# Altium schematic symbol library Library.SchLib: 691 symbols (part 5 of 11)
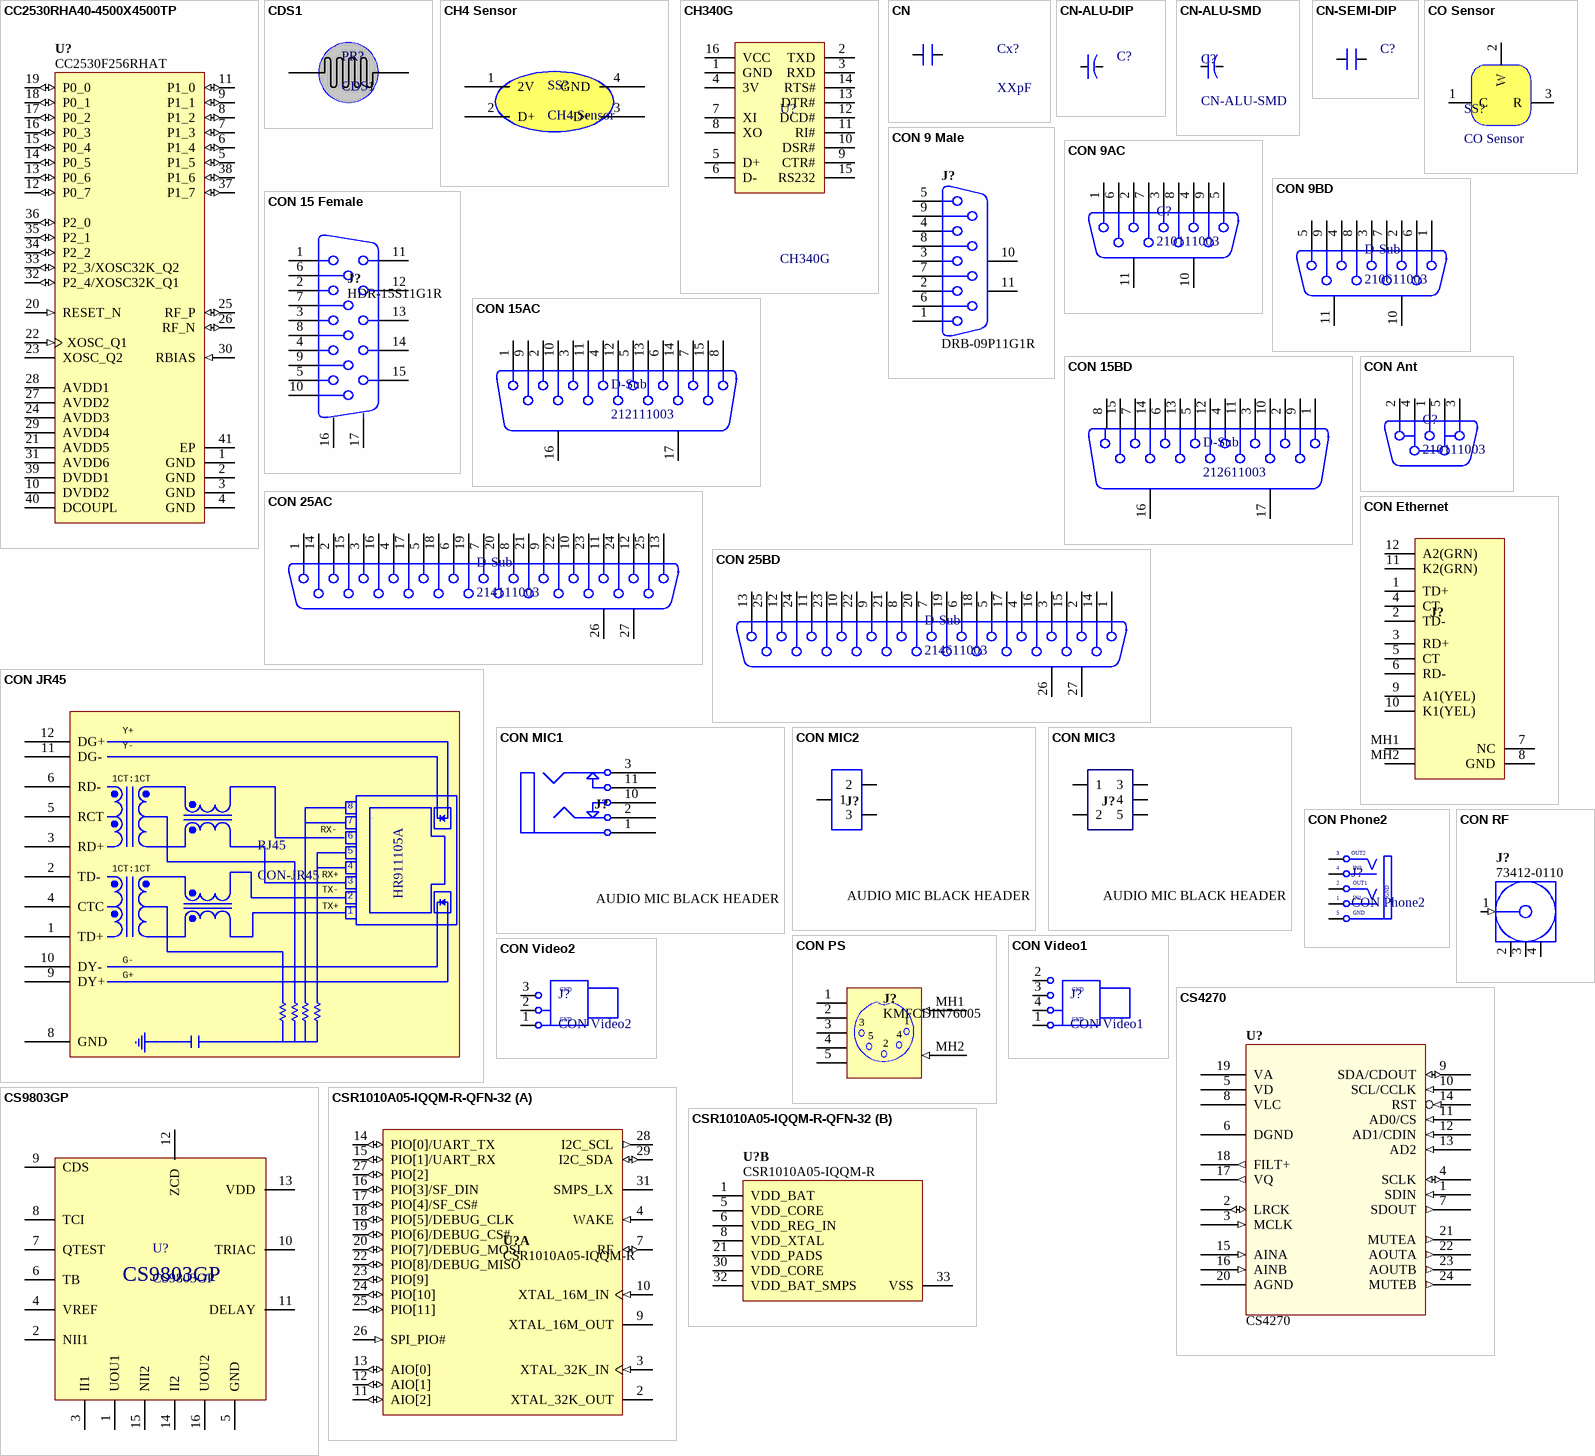
[diagram p50: symbols CC2530RHA40-4500X4500TP to CSR1010A05-IQQM-R-QFN-32]

## CON MIC2
designator J?, comment AUDIO MIC BLACK HEADER
Connector, 3.5mm Stereo Audio Socket, Black, 2 break contacts (normals) and 2 auxiliary make contacts; Connector type: AUDIO BLACK HEADER; Category: Connector; Status: Production
footprint CON MIC2
pins: 1, 2, 3

## CON MIC3
designator J?, comment AUDIO MIC BLACK HEADER
Connector, 3.5mm Stereo Audio Socket, Black, 2 break contacts (normals) and 2 auxiliary make contacts; Connector type: AUDIO BLACK HEADER; Category: Connector; Status: Production
footprint CON MIC3
pins: 1, 2, 3, 4, 5

## CON Phone2
designator J?
Jac Phone Stereo; Creat by: VanDungEvn@Gmail.com
footprint CON Phone2
pins: 1 S1 (power) "Sleeve (Ground)", 2 S1 "Tip Normal (Break Contact)", 3 TN "Tip Normal (Break Contact)", 4 S (power) "Sleeve (Ground)", 5 GND "Tip"
text: OUT2; IN2; OUT1; IN1

## CON PS
designator J?, comment KMFCDIN76005
Socket, 5-way R/A DIN; Connector type: Right Angle; Max Current: mA; Mounting Technology: Through-Hole; Status: Unreleased; Category: Connector
footprint KMFCDIN76005
pins: 1, 2, 3, 4, 5, MH1 (in), MH2 (in)

## CON RF
designator J?, comment 73412-0110
Microcoaxial RF, 50 Ohm, PCB Vertical Jack Receptacle, SMT, 1.25mm Mounted Height; Sub-class: Serial Bus; IEC-class: Connector; Body Length: 4 mm; Datasheet: http://www.molex.com/webdocs/datasheets/pdf/en-us/0734120110_RF_COAX_CONNECTORS.pdf; Terminal Pitch: 3 mm; Class: Connector
footprint CON RF (Microcoaxial RF, 50 Ohm, PCB Vertical Jack Receptacle, SMT, 1.25mm Mounted Height)
pins: 1 Signal (in) "Signal Pin", 2 GND (power), 3 GND (power), 4 GND (power)

## CON Video1
designator J?
Jac Video Stereo
footprint TRC-005 (RCA Phono Jack, Right Angle, Thru-Hole, Body 20.8 x 9.8 x 11 mm (LxWxH))
pins: 1 Black, 2 Yellow, 3 White, 4 Red
text: GND

## CON Video2
designator J?
Jac Video Stereo
footprint TRC-006
pins: 1, 2, 3
text: GND

## CS4270
designator U?
CS4270; 24-Bit, 192 kHz Stereo Audio CODEC; AudioICTypes: Amplifier; Supply Voltage: mV; Mounting Technology: Surface Mount; Status: Unreleased; Category: IC-Audio
footprint TSSOP24 (TSSOP, 24-Leads, Body 7.80x4.40mm, Pitch 0.65mm, IPC High Density)
pins: 1 SDIN (in), 2 LRCK (io), 3 MCLK (in), 4 SCLK (io), 5 VD (power), 6 DGND (power), 7 SDOUT (out), 8 VLC (power), 9 SDA/CDOUT (io), 10 SCL/CCLK (in), 11 AD0/CS (in), 12 AD1/CDIN (in), 13 AD2 (in), 14 RST (in), 15 AINA (in), 16 AINB (in), 17 VQ (out), 18 FILT+ (out), 19 VA (power), 20 AGND (power), 21 MUTEA (out), 22 AOUTA (out), 23 AOUTB (out), 24 MUTEB (out)

## CS9803GP
designator U?
Infrared Induction Control IC
footprint DIP16
pins: 1 UOU1, 2 NII1, 3 II1, 4 VREF, 5 GND (power), 6 TB (power), 7 QTEST (power), 8 TCI (power), 9 CDS (power), 10 TRIAC (power), 11 DELAY (power), 12 ZCD (power), 13 VDD (power), 14 II2 (power), 15 NII2 (power), 16 UOU2 (power)

## CSR1010A05-IQQM-R-QFN-32
designator U?, comment CSR1010A05-IQQM-R
Bluetooth Low Energy Single-mode IC, 64 KB RAM and 64 KB ROM, -30 to 85 degC, 32-pin QFN; Manufacturer: CSR; Stop bits No.: 1 or 2; I/O Supply Voltage (VDD_PADS): 1.2 to 3.6 V; Digital IO No.: 12; Packing: Tape and Reel; Flow control: CTS / RTS; Bits per byte: 8; Baud Rate (max): 2Mbaud (<=1%Error); Baud Rate (min): 1200 baud (<=2%Error); ComponentLink2Description: Datasheet; ComponentLink2URL: https://www.csrsupport.com/download/39359/CSR1010%20Data%20Sheet%20CS-231985-DS.pdf; PartNumber: CSR1010A05-IQQM-R; DatasheetVersion: Rev. 4; Memory Size: 64KB RAM and 64KB ROM; ComponentLink3URL: https://www.csrsupport.com/download/39359/CSR1010%20Data%20Sheet%20CS-231985-DS.pdf; Mounting Technology: Surface Mount; Operating Temperature: -30 to 85 degC; PackageDescription: 32-Pin Quad Flat No-lead Package, Body 5x5mm, Pitch 0.5mm; ComponentLink1URL: http://csr.com/; PackageReference: QFN-32; ComponentLink3Description: Package Specification; ComponentLink1Description: Manufacturer URL
footprint QFN32 (QFN, 32-Leads, Body 5x5 mm, Pitch 0.5mm, IPC High Density)
part A pins: 2 XTAL_32K_OUT "Drive for sleep clock crystal.", 3 XTAL_32K_IN (in) "32.768kHz sleep clock input.", 4 WAKE (in) "Input to wake CSR1010 QFN from hibernate or dormant.", 7 RF (io) "Bluetooth transmitter / receiver.", 9 XTAL_16M_OUT "Drive for crystal.", 10 XTAL_16M_IN (in) "Reference clock input.", 11 AIO[2] (io) "Analogue programmable I/O line.", 12 AIO[1] (io) "Analogue programmable I/O line.", 13 AIO[0] (io) "Analogue programmable I/O line.", 14 PIO[0]/UART_TX (io) "Programmable I/O line or UART TX.", 15 PIO[1]/UART_RX (io) "Programmable I/O line or UART RX.", 16 PIO[3]/SF_DIN (io) "Programmable I/O line or SPI serial flash data (SF_DIN) input. If connecting to SPI serial flash, this pin connects to SI on the serial flash. See Section 5.3.", 17 PIO[4]/SF_CS# (io) "Programmable I/O line or SPI serial flash chip select (SF_CS#), see Section 5.3.", 18 PIO[5]/DEBUG_CLK (io) "Programmable I/O line or debug SPI CLK selected by SPI_PIO#.", 19 PIO[6]/DEBUG_CS# (io) "Programmable I/O line or debug SPI chip select (CS#) selected by SPI_PIO#.", 20 PIO[7]/DEBUG_MOSI (io) "Programmable I/O line or debug SPI MOSI selected by SPI_PIO#.", 22 PIO[8]/DEBUG_MISO (io) "Programmable I/O line or debug SPI MISO selected by SPI_PIO#.", 23 PIO[9] (io) "Programmable I/O line.", 24 PIO[10] (io) "Programmable I/O line.", 25 PIO[11] (io) "Programmable I/O line.", 26 SPI_PIO# (in) "Selects SPI debug on PIO[8:5].", 27 PIO[2] (io) "Programmable I/O line or I2C power.", 28 I2C_SCL (out) "I2C clock or SPI serial flash clock output (SF_CLK), see Section 5.3.", 29 I2C_SDA (io) "I2C data input / output or SPI serial flash data output (SF_DOUT). If connecting to SPI serial flash, connect this pin to SO on the serial flash. See Section 5.3.", 31 SMPS_LX (power) "High-voltage switch-mode regulator output."
part B pins: 1 VDD_BAT (power) "Battery input and regulator enable (active high).", 5 VDD_CORE (power) "Positive supply for digital domain.", 6 VDD_REG_IN (power) "Positive supply for Bluetooth radio and digital linear regulator.", 8 VDD_XTAL (power) "Decouple with 470nF capacitor to ground.", 21 VDD_PADS (power) "Positive supply for all digital I/O ports PIO[11:0].", 30 VDD_CORE (power) "Positive supply for digital domain.", 32 VDD_BAT_SMPS (power) "Input to high-voltage switch-mode regulator.", 33 VSS (power) "Ground connections."

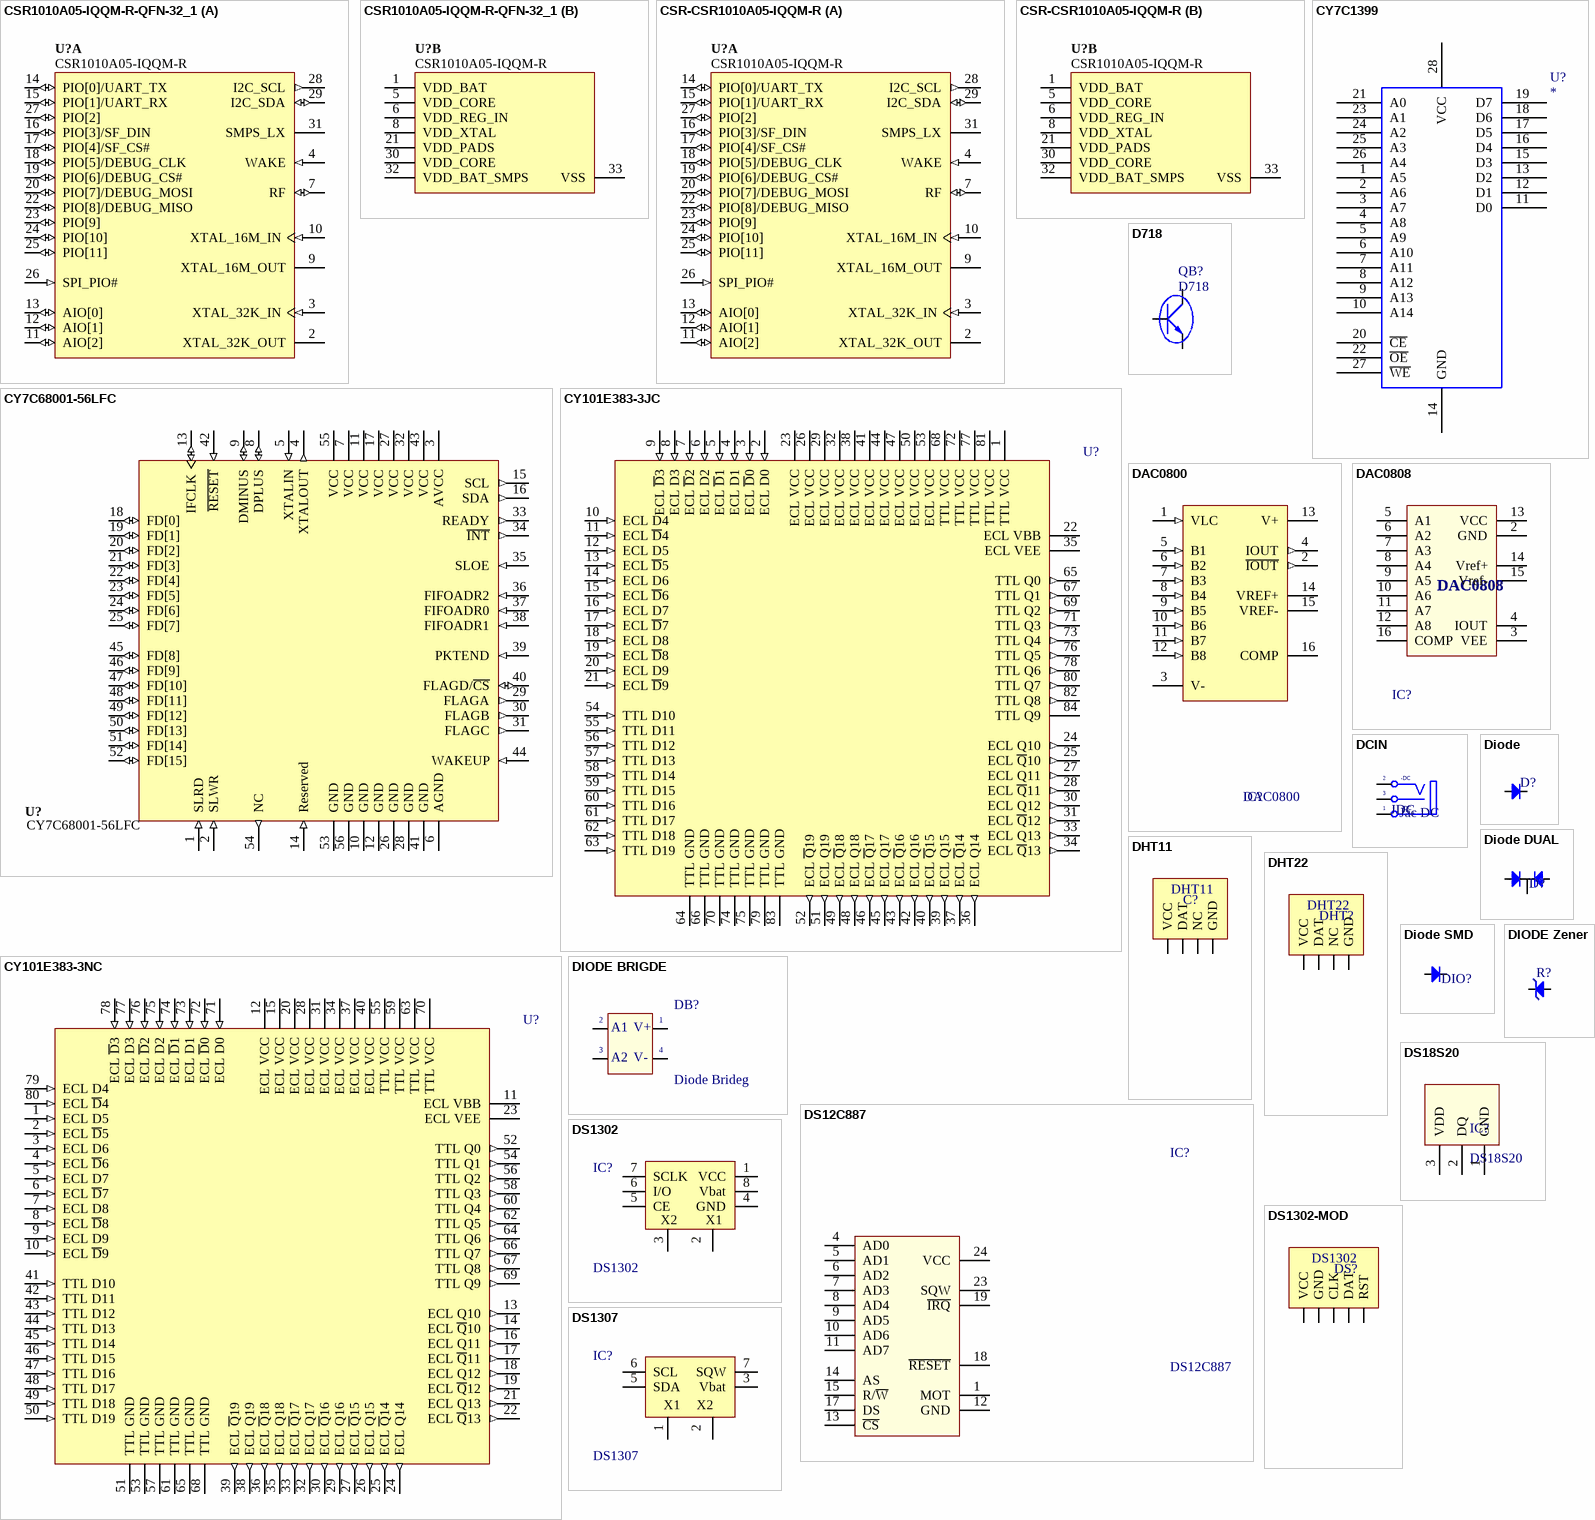
[diagram p19: symbols CSR1010A05-IQQM-R-QFN-32_1 to DS1307]

## CSR1010A05-IQQM-R-QFN-32_1
designator U?, comment CSR1010A05-IQQM-R
Bluetooth Low Energy Single-mode IC, 64 KB RAM and 64 KB ROM, -30 to 85 degC, 32-pin QFN; Manufacturer: CSR; Stop bits No.: 1 or 2; I/O Supply Voltage (VDD_PADS): 1.2 to 3.6 V; Digital IO No.: 12; Packing: Tape and Reel; Flow control: CTS / RTS; Bits per byte: 8; Baud Rate (max): 2Mbaud (<=1%Error); Baud Rate (min): 1200 baud (<=2%Error); ComponentLink2Description: Datasheet; ComponentLink2URL: https://www.csrsupport.com/download/39359/CSR1010%20Data%20Sheet%20CS-231985-DS.pdf; PartNumber: CSR1010A05-IQQM-R; DatasheetVersion: Rev. 4; Memory Size: 64KB RAM and 64KB ROM; ComponentLink3URL: https://www.csrsupport.com/download/39359/CSR1010%20Data%20Sheet%20CS-231985-DS.pdf; Mounting Technology: Surface Mount; Operating Temperature: -30 to 85 degC; PackageDescription: 32-Pin Quad Flat No-lead Package, Body 5x5mm, Pitch 0.5mm; ComponentLink1URL: http://csr.com/; PackageReference: QFN-32; ComponentLink3Description: Package Specification; ComponentLink1Description: Manufacturer URL
footprint QFN32 (QFN, 32-Leads, Body 5x5 mm, Pitch 0.5mm, IPC High Density)
part A pins: 2 XTAL_32K_OUT "Drive for sleep clock crystal.", 3 XTAL_32K_IN (in) "32.768kHz sleep clock input.", 4 WAKE (in) "Input to wake CSR1010 QFN from hibernate or dormant.", 7 RF (io) "Bluetooth transmitter / receiver.", 9 XTAL_16M_OUT "Drive for crystal.", 10 XTAL_16M_IN (in) "Reference clock input.", 11 AIO[2] (io) "Analogue programmable I/O line.", 12 AIO[1] (io) "Analogue programmable I/O line.", 13 AIO[0] (io) "Analogue programmable I/O line.", 14 PIO[0]/UART_TX (io) "Programmable I/O line or UART TX.", 15 PIO[1]/UART_RX (io) "Programmable I/O line or UART RX.", 16 PIO[3]/SF_DIN (io) "Programmable I/O line or SPI serial flash data (SF_DIN) input. If connecting to SPI serial flash, this pin connects to SI on the serial flash. See Section 5.3.", 17 PIO[4]/SF_CS# (io) "Programmable I/O line or SPI serial flash chip select (SF_CS#), see Section 5.3.", 18 PIO[5]/DEBUG_CLK (io) "Programmable I/O line or debug SPI CLK selected by SPI_PIO#.", 19 PIO[6]/DEBUG_CS# (io) "Programmable I/O line or debug SPI chip select (CS#) selected by SPI_PIO#.", 20 PIO[7]/DEBUG_MOSI (io) "Programmable I/O line or debug SPI MOSI selected by SPI_PIO#.", 22 PIO[8]/DEBUG_MISO (io) "Programmable I/O line or debug SPI MISO selected by SPI_PIO#.", 23 PIO[9] (io) "Programmable I/O line.", 24 PIO[10] (io) "Programmable I/O line.", 25 PIO[11] (io) "Programmable I/O line.", 26 SPI_PIO# (in) "Selects SPI debug on PIO[8:5].", 27 PIO[2] (io) "Programmable I/O line or I2C power.", 28 I2C_SCL (out) "I2C clock or SPI serial flash clock output (SF_CLK), see Section 5.3.", 29 I2C_SDA (io) "I2C data input / output or SPI serial flash data output (SF_DOUT). If connecting to SPI serial flash, connect this pin to SO on the serial flash. See Section 5.3.", 31 SMPS_LX (power) "High-voltage switch-mode regulator output."
part B pins: 1 VDD_BAT (power) "Battery input and regulator enable (active high).", 5 VDD_CORE (power) "Positive supply for digital domain.", 6 VDD_REG_IN (power) "Positive supply for Bluetooth radio and digital linear regulator.", 8 VDD_XTAL (power) "Decouple with 470nF capacitor to ground.", 21 VDD_PADS (power) "Positive supply for all digital I/O ports PIO[11:0].", 30 VDD_CORE (power) "Positive supply for digital domain.", 32 VDD_BAT_SMPS (power) "Input to high-voltage switch-mode regulator.", 33 VSS (power) "Ground connections."

## CSR-CSR1010A05-IQQM-R
designator U?, comment CSR1010A05-IQQM-R
Bluetooth Low Energy Single-mode IC, 64 KB RAM and 64 KB ROM, -30 to 85 degC, 32-pin QFN; Manufacturer: CSR; Stop bits No.: 1 or 2; I/O Supply Voltage (VDD_PADS): 1.2 to 3.6 V; Digital IO No.: 12; Packing: Tape and Reel; Flow control: CTS / RTS; Bits per byte: 8; Baud Rate (max): 2Mbaud (<=1%Error); Baud Rate (min): 1200 baud (<=2%Error); ComponentLink2Description: Datasheet; ComponentLink2URL: https://www.csrsupport.com/download/39359/CSR1010%20Data%20Sheet%20CS-231985-DS.pdf; PartNumber: CSR1010A05-IQQM-R; DatasheetVersion: Rev. 4; Memory Size: 64KB RAM and 64KB ROM; ComponentLink3URL: https://www.csrsupport.com/download/39359/CSR1010%20Data%20Sheet%20CS-231985-DS.pdf; Mounting Technology: Surface Mount; Operating Temperature: -30 to 85 degC; PackageDescription: 32-Pin Quad Flat No-lead Package, Body 5x5mm, Pitch 0.5mm; ComponentLink1URL: http://csr.com/; PackageReference: QFN-32; ComponentLink3Description: Package Specification; ComponentLink1Description: Manufacturer URL
footprint QFN32 (QFN, 32-Leads, Body 5x5 mm, Pitch 0.5mm, IPC High Density)
part A pins: 2 XTAL_32K_OUT "Drive for sleep clock crystal.", 3 XTAL_32K_IN (in) "32.768kHz sleep clock input.", 4 WAKE (in) "Input to wake CSR1010 QFN from hibernate or dormant.", 7 RF (io) "Bluetooth transmitter / receiver.", 9 XTAL_16M_OUT "Drive for crystal.", 10 XTAL_16M_IN (in) "Reference clock input.", 11 AIO[2] (io) "Analogue programmable I/O line.", 12 AIO[1] (io) "Analogue programmable I/O line.", 13 AIO[0] (io) "Analogue programmable I/O line.", 14 PIO[0]/UART_TX (io) "Programmable I/O line or UART TX.", 15 PIO[1]/UART_RX (io) "Programmable I/O line or UART RX.", 16 PIO[3]/SF_DIN (io) "Programmable I/O line or SPI serial flash data (SF_DIN) input. If connecting to SPI serial flash, this pin connects to SI on the serial flash. See Section 5.3.", 17 PIO[4]/SF_CS# (io) "Programmable I/O line or SPI serial flash chip select (SF_CS#), see Section 5.3.", 18 PIO[5]/DEBUG_CLK (io) "Programmable I/O line or debug SPI CLK selected by SPI_PIO#.", 19 PIO[6]/DEBUG_CS# (io) "Programmable I/O line or debug SPI chip select (CS#) selected by SPI_PIO#.", 20 PIO[7]/DEBUG_MOSI (io) "Programmable I/O line or debug SPI MOSI selected by SPI_PIO#.", 22 PIO[8]/DEBUG_MISO (io) "Programmable I/O line or debug SPI MISO selected by SPI_PIO#.", 23 PIO[9] (io) "Programmable I/O line.", 24 PIO[10] (io) "Programmable I/O line.", 25 PIO[11] (io) "Programmable I/O line.", 26 SPI_PIO# (in) "Selects SPI debug on PIO[8:5].", 27 PIO[2] (io) "Programmable I/O line or I2C power.", 28 I2C_SCL (out) "I2C clock or SPI serial flash clock output (SF_CLK), see Section 5.3.", 29 I2C_SDA (io) "I2C data input / output or SPI serial flash data output (SF_DOUT). If connecting to SPI serial flash, connect this pin to SO on the serial flash. See Section 5.3.", 31 SMPS_LX (power) "High-voltage switch-mode regulator output."
part B pins: 1 VDD_BAT (power) "Battery input and regulator enable (active high).", 5 VDD_CORE (power) "Positive supply for digital domain.", 6 VDD_REG_IN (power) "Positive supply for Bluetooth radio and digital linear regulator.", 8 VDD_XTAL (power) "Decouple with 470nF capacitor to ground.", 21 VDD_PADS (power) "Positive supply for all digital I/O ports PIO[11:0].", 30 VDD_CORE (power) "Positive supply for digital domain.", 32 VDD_BAT_SMPS (power) "Input to high-voltage switch-mode regulator.", 33 VSS (power) "Ground connections."

## CY7C1399
designator U?
32K ASYNCHRONOUS SRAM
footprint SO28 (SOP, 28-Leads, Body 18.1x8.6mm, Pitch 1.27mm, IPC Low Density)
pins: 1 A5, 2 A6, 3 A7, 4 A8, 5 A9, 6 A10, 7 A11, 8 A12, 9 A13, 10 A14, 11 D0, 12 D1, 13 D2, 14 GND, 15 D3, 16 D4, 17 D5, 18 D6, 19 D7, 20 ~{CE}, 21 A0, 22 ~{OE}, 23 A1, 24 A2, 25 A3, 26 A4, 27 ~{WE}, 28 VCC

## CY7C68001-56LFC
designator U?
CY7C68001-56LFC, EZ-USB SX2 High-Speed USB Interface; Comm Standard: None; Category: IC-Communication; Mounting Technology: Surface Mount; Status: Production
footprint QFN56 (QFN, 56-Leads, Body 8.00x8.00mm, Pitch 0.50mm, Thermal Pad 6.40x6.40mm, IPC Medium Density)
pins: 1 SLRD (in), 2 SLWR (in), 3 AVCC (power), 4 XTALOUT (out), 5 XTALIN (in), 6 AGND (power), 7 VCC (power), 8 DPLUS (io), 9 DMINUS (io), 10 GND (power), 11 VCC (power), 12 GND (power), 13 IFCLK (io), 14 Reserved (in), 15 SCL (out), 16 SDA (out), 17 VCC (power), 18 FD[0] (io), 19 FD[1] (io), 20 FD[2] (io), 21 FD[3] (io), 22 FD[4] (io), 23 FD[5] (io), 24 FD[6] (io), 25 FD[7] (io), 26 GND (power), 27 VCC (power), 28 GND (power), 29 FLAGA (out), 30 FLAGB (out), 31 FLAGC (out), 32 VCC (power), 33 READY (out), 34 ~{INT} (out), 35 SLOE (in), 36 FIFOADR2 (in), 37 FIFOADR0 (in), 38 FIFOADR1 (in), 39 PKTEND (in), 40 FLAGD/~{CS} (io), 41 GND (power), 42 ~{RESET} (in), 43 VCC (power), 44 WAKEUP (in), 45 FD[8] (io), 46 FD[9] (io), 47 FD[10] (io), 48 FD[11] (io), 49 FD[12] (io), 50 FD[13] (io), 51 FD[14] (io), 52 FD[15] (io), 53 GND (power), 54 NC (out), 55 VCC (power), 56 GND (power)

## CY101E383-3JC
designator U?
ECL/TTL/ECL Translator and High-Speed Bus Driver; Published: 11-Dec-2002; LatestRevisionDate: 13-Apr-2006; LatestRevisionNote: IPC-7351 Footprint Added.; DatasheetVersion: 11-Apr-1997; PackageVersion: Mar-2001; PackageReference: J83; Publisher: Altium Limited; PackageDescription: 84-Pin Plastic Leaded Chip Carrier 1.27 mm Pitch; Code_IPC: PLCC-84; ComponentLink1Description: Manufacturer Link; ComponentLink1URL: http://www.cypress.com/
footprint LCC84 (Leaded Chip Carrier, 84-Leads, Body 29.3x29.3mm, Pitch 1.27mm, IPC High Density)
pins: 1 TTL VCC (power), 2 ECL D0 (in), 3 ECL ~{D}0 (in), 4 ECL D1 (in), 5 ECL ~{D}1 (in), 6 ECL D2 (in), 7 ECL ~{D}2 (in), 8 ECL D3 (in), 9 ECL ~{D}3 (in), 10 ECL D4 (in), 11 ECL ~{D}4 (in), 12 ECL D5 (in), 13 ECL ~{D}5 (in), 14 ECL D6 (in), 15 ECL ~{D}6 (in), 16 ECL D7 (in), 17 ECL ~{D}7 (in), 18 ECL D8 (in), 19 ECL ~{D}8 (in), 20 ECL D9 (in), 21 ECL ~{D}9 (in), 22 ECL VBB (power), 23 ECL VCC (power), 24 ECL Q10 (out), 25 ECL ~{Q}10 (out), 26 ECL VCC (power), 27 ECL Q11 (out), 28 ECL ~{Q}11 (out), 29 ECL VCC (power), 30 ECL Q12 (out), 31 ECL ~{Q}12 (out), 32 ECL VCC (power), 33 ECL Q13 (out), 34 ECL ~{Q}13 (out), 35 ECL VEE (power), 36 ECL Q14 (out), 37 ECL ~{Q}14 (out), 38 ECL VCC (power), 39 ECL Q15 (out), 40 ECL ~{Q}15 (out), 41 ECL VCC (power), 42 ECL Q16 (out), 43 ECL ~{Q}16 (out), 44 ECL VCC (power), 45 ECL Q17 (out), 46 ECL ~{Q}17 (out), 47 ECL VCC (power), 48 ECL Q18 (out), 49 ECL ~{Q}18 (out), 50 ECL VCC (power), 51 ECL Q19 (out), 52 ECL ~{Q}19 (out), 53 ECL VCC (power), 54 TTL D10 (in), 55 TTL D11 (in), 56 TTL D12 (in), 57 TTL D13 (in), 58 TTL D14 (in), 59 TTL D15 (in), 60 TTL D16 (in), 61 TTL D17 (in), 62 TTL D18 (in), 63 TTL D19 (in), 64 TTL GND (power), 65 TTL Q0 (out), 66 TTL GND (power), 67 TTL Q1 (out), 68 TTL VCC (power), 69 TTL Q2 (out), 70 TTL GND (power), 71 TTL Q3 (out), 72 TTL VCC (power), 73 TTL Q4 (out), 74 TTL GND (power), 75 TTL GND (power), 76 TTL Q5 (out), 77 TTL VCC (power), 78 TTL Q6 (out), 79 TTL GND (power), 80 TTL Q7 (out), 81 TTL VCC (power), 82 TTL Q8 (out), 83 TTL GND (power), 84 TTL Q9 (power)

## CY101E383-3NC
designator U?
ECL/TTL/ECL Translator and High-Speed Bus Driver; Published: 11-Dec-2002; LatestRevisionDate: 13-Apr-2006; LatestRevisionNote: IPC-7351 Footprint Added.; DatasheetVersion: 11-Apr-1997; PackageVersion: Apr-1997; PackageReference: N80; Publisher: Altium Limited; PackageDescription: 80-Pin Plastic Quad Flat Pack 0.65 mm Pitch; Code_IPC: QFP65P1720X1720-80; ComponentLink1Description: Manufacturer Link; ComponentLink1URL: http://www.cypress.com/
footprint QFP80 (QFP, 80-Leads, Body 14 x 14mm, Pitch 0.65mm, IPC High Density)
pins: 1 ECL D5 (in), 2 ECL ~{D}5 (in), 3 ECL D6 (in), 4 ECL ~{D}6 (in), 5 ECL D7 (in), 6 ECL ~{D}7 (in), 7 ECL D8 (in), 8 ECL ~{D}8 (in), 9 ECL D9 (in), 10 ECL ~{D}9 (in), 11 ECL VBB (power), 12 ECL VCC (power), 13 ECL Q10 (out), 14 ECL ~{Q}10 (out), 15 ECL VCC (power), 16 ECL Q11 (out), 17 ECL ~{Q}11 (out), 18 ECL Q12 (out), 19 ECL ~{Q}12 (out), 20 ECL VCC (power), 21 ECL Q13 (out), 22 ECL ~{Q}13 (out), 23 ECL VEE (power), 24 ECL Q14 (out), 25 ECL ~{Q}14 (out), 26 ECL Q15 (out), 27 ECL ~{Q}15 (out), 28 ECL VCC (power), 29 ECL Q16 (out), 30 ECL ~{Q}16 (out), 31 ECL VCC (power), 32 ECL Q17 (out), 33 ECL ~{Q}17 (out), 34 ECL VCC (power), 35 ECL Q18 (out), 36 ECL ~{Q}18 (out), 37 ECL VCC (power), 38 ECL Q19 (out), 39 ECL ~{Q}19 (out), 40 ECL VCC (power), 41 TTL D10 (in), 42 TTL D11 (in), 43 TTL D12 (in), 44 TTL D13 (in), 45 TTL D14 (in), 46 TTL D15 (in), 47 TTL D16 (in), 48 TTL D17 (in), 49 TTL D18 (in), 50 TTL D19 (in), 51 TTL GND (power), 52 TTL Q0 (out), 53 TTL GND (power), 54 TTL Q1 (out), 55 TTL VCC (power), 56 TTL Q2 (out), 57 TTL GND (power), 58 TTL Q3 (out), 59 TTL VCC (power), 60 TTL Q4 (out), 61 TTL GND (power), 62 TTL Q5 (out), 63 TTL VCC (power), 64 TTL Q6 (out), 65 TTL GND (power), 66 TTL Q7 (out), 67 TTL Q8 (out), 68 TTL GND (power), 69 TTL Q9 (out), 70 TTL VCC (power), 71 ECL D0 (in), 72 ECL ~{D}0 (in), 73 ECL D1 (in), 74 ECL ~{D}1 (in), 75 ECL D2 (in), 76 ECL ~{D}2 (in), 77 ECL D3 (in), 78 ECL ~{D}3 (in), 79 ECL D4 (in), 80 ECL ~{D}4 (in)

## D718
designator QB?
Transistor Power Supply; Value: D718
footprint TO247+LageHeatsink
footprint TO247
footprint TO247D
footprint TO247h
pins: 1 B, 2 C, 3 E

## DAC0800
designator IC?
8-Bit Digital-to-Analog Converter; Value: DAC0800
footprint DIP16
footprint SO16 (SOIC, 16-Leads, Body 9.90x3.91mm, Pitch 1.27mm, IPC Medium Density)
pins: 1 VLC (in), 2 ~{IOUT} (out), 3 V- (power), 4 IOUT (out), 5 B1 (in), 6 B2 (in), 7 B3 (in), 8 B4 (in), 9 B5 (in), 10 B6 (in), 11 B7 (in), 12 B8 (in), 13 V+ (power), 14 VREF+, 15 VREF-, 16 COMP

## DAC0808
designator IC?
8 Bits Digital Analog Convert; Value: DAC0808
footprint DIP16
footprint SO16 (SOIC, 16-Leads, Body 9.9x3.9mm, Pitch 1.27mm, IPC High Density)
pins: 2 GND, 3 VEE, 4 IOUT, 5 A1, 6 A2, 7 A3, 8 A4, 9 A5, 10 A6, 11 A7, 12 A8, 13 VCC (power), 14 Vref+, 15 Vref-, 16 COMP
2 alternate drawings of the same symbol

## DCIN
designator JDC, comment Jac DC
Jac DC input; Value: Jac DC
footprint DC0 (Jac DC input)
footprint DC1 (WR-DC_DC Power Jack_Right Angled_THT Center Pin ?0.65_Plug ID ?0.75_Plug OD ?2.35_with Peg)
footprint DC2 (WR-DC_DC Power Jack_Vertical_THT WR-DC_DC Power Jack_Vertical_THT)
footprint DC3 (WR-DC_DC Power Jack_Vertical_THT Center Pin ?2.5_Plug ID ?2.55_Plug OD ?5.5)
footprint DC4 (WR-DC_DC Power Jack_Right Angled_THT Center Pin ?1.0_Plug ID ?1.05_Plug OD ?3.5_with Peg)
footprint DC5 (WR-DC_DC Power Jack_Right Angled_THT Center Pin ?1.3_Plug ID ?1.35_Plug OD ?3.5_with Peg)
pins: 1 T "Tip", 2 TN "Tip Normal (Break Contact)", 3 S (power) "Sleeve (Ground)"
text: -DC; +DC

## DHT11
designator C?
Manufacturer: W¨¹rth Elektronik eiSos GmbH; partNo: 613004143121; ComponentLink1 Description: Manufacturer; ComponentLink2 Description: Datasheet; NoPins: 04; Created Date: 29 March 2013; ComponentLink1URL: http://www.we-online.com; ComponentLink2URL: http://katalog.we-online.de/em/datasheet/6130xx143121.pdf; Created by: Karrer Zheng
footprint DHT11
footprint JP4-C1T (4 row, straight, gold plating)
pins: 1 VCC, 2 DAT, 3 NC, 4 GND

## DHT22
designator DHT?
Manufacturer: W¨¹rth Elektronik eiSos GmbH; partNo: 613004143121; ComponentLink1 Description: Manufacturer; ComponentLink2 Description: Datasheet; NoPins: 04; Created Date: 29 March 2013; ComponentLink1URL: http://www.we-online.com; ComponentLink2URL: http://katalog.we-online.de/em/datasheet/6130xx143121.pdf; Created by: Karrer Zheng
footprint DHT22
footprint DHT22-SMD
footprint JP4-C1T (4 row, straight, gold plating)
pins: 1 VCC, 2 DAT, 3 NC, 4 GND

## Diode
designator D?  (value not drawn)
Default Diode; Code - JEDEC: DO-214-AB; Value: 1N5007; Published: 8-Jun-2000; Revision: July-2002: Re-released for DXP Platform.; Publisher: Altium Limited
footprint DIO-1A
footprint DIO-0.5A-SMALL (Diode muoi, W 80mil, L 300mil)
footprint DIO-1A-SMALL (Diode 1A, W 100mil, L 350mil)
footprint DIO-2A (Diode 2A, W 150mil, L 450mil)
footprint DIO-5A (Diode 5A, W 200mil, L 550mil)
footprint DIO-5AN (Diode 5A, W 200mil, L 250mil)
footprint DIO-1AN (Diode 1A, W 100mil, L 150mil)
footprint DIO-3A (Diode 3A)
footprint DIO-2A - LONG (Diode 2A, W 150mil, L 450mil)
footprint DIO-2AN (Diode 2A, W 150mil, L 450mil)
footprint DIO-5A - LONG (Diode 5A, W 200mil, L 550mil)
footprint DIO-7A-SMALL (Diode 7A)
pins: 1 A, 2 K

## DIODE BRIGDE
designator DB?, comment Diode Brideg
Convert AC to DC voltage, 4 pin; Value: Cau 1A
footprint DIO-Bri 5A (Brigde 5A)
footprint DIO-Bri 1A
footprint DIO-Bri 2A (CAU 2A DET)
footprint DIO-BRI 35A (35A/1000V)
footprint DIO-Bri 10A (Brigde 10A)
footprint DIO-Bri 6A (Brigde 6A)
footprint DIO-Bri 8A (Brigde 8A)
pins: 1 +V OUT, 2 AC1, 3 AC2, 4 -V OUT
text: A1; V+; A2; V-

## Diode DUAL
designator D?  (value not drawn)
Default Diode; Code - JEDEC: DO-214-AB; Value: 1N5007; Published: 8-Jun-2000; Revision: July-2002: Re-released for DXP Platform.; Publisher: Altium Limited
footprint TO252-123
footprint TO220H2 (TO-220 - 1-2-3)
footprint TO220H1 (TO-220 - 1-2-3)
footprint TO220H3 (TO-220 1-2-3)
footprint TO247
footprint TO220-123 (TO-220 - 1-2-3)
footprint TO247+LageHeatsink
pins: 1, 2, 3

## Diode SMD
designator DIO?
Default Diode; Code - JEDEC: DO-214-AB; Value: 1N5007; Published: 8-Jun-2000; Revision: July-2002: Re-released for DXP Platform.; Publisher: Altium Limited
footprint DIO-SMD-106
footprint DIO-SMD-123
footprint DIO-SMD-A
footprint DIO-SMD-B (Magnetic-Core Inductor with Winding Polarity Marking; 2 Leads)
footprint DIO-SMD-216AA (DO216AA ST-MITE)
footprint DIO-SMD-222AA (DO216AA ST-MITE)
pins: 1 A, 2 K

## DIODE Zener
designator R?
Zenner
footprint DIO-0.5A-SMALL (Diode muoi, W 80mil, L 300mil)
footprint DIO-1A
footprint DIO-1A-SMALL (Diode 1A, W 100mil, L 350mil)
footprint DIO-1AN (Diode 1A, W 100mil, L 150mil)
footprint DIO-2A (Diode 2A, W 150mil, L 450mil)
footprint DIO-2A - LONG (Diode 2A, W 150mil, L 450mil)
footprint DIO-1A-ZEN (Diode 1A, W 100mil, L 350mil)
footprint DIO-2A-ZEN
pins: 1 A, 2 K

## DS12C887
designator IC?
Real Timer Parallel; Value: DS12C887
footprint DIP24/W0.6 (DIP24/W.600, Pin to pin 100mil)
pins: 1 MOT, 4 AD0, 5 AD1, 6 AD2, 7 AD3, 8 AD4, 9 AD5, 10 AD6, 11 AD7, 12 GND, 13 ~{CS}, 14 AS, 15 R/~{W}, 17 DS, 18 ~{RESET}, 19 ~{IRQ}, 23 SQW, 24 VCC

## DS18S20
designator IC?
High Precision  1-Wire® Digital Thermometer
footprint JP3-C1T (3 row, straight, gold plating)
footprint TO92-321 (TO-92)
pins: 1 GND, 2 DQ, 3 VDD

## DS1302
designator IC?
Real Timer Serial - 2=>5V; Value: DS1307
footprint DIP8
footprint SO8
pins: 1 VCC, 2 X1, 3 X2, 4 GND, 5 CE, 6 I/O, 7 SCLK, 8 Vbat

## DS1302-MOD
designator DS?
Manufacturer: W¨¹rth Elektronik eiSos GmbH; partNo: 613004143121; ComponentLink1 Description: Manufacturer; ComponentLink2 Description: Datasheet; NoPins: 04; Created Date: 29 March 2013; ComponentLink1URL: http://www.we-online.com; ComponentLink2URL: http://katalog.we-online.de/em/datasheet/6130xx143121.pdf; Created by: Karrer Zheng
footprint ds1302
footprint JP5-C1T (5 row, straight, gold plating)
pins: 1 VCC, 2 GND, 3 CLK, 4 DAT, 5 RST
text: DS1302

## DS1307
designator IC?
Real Timer Serial; Value: DS1307
footprint DIP8
footprint SO8
pins: 1 X1, 2 X2, 3 Vbat, 4 GND hidden to GND, 5 SDA, 6 SCL, 7 SQW, 8 VCC hidden to VCC

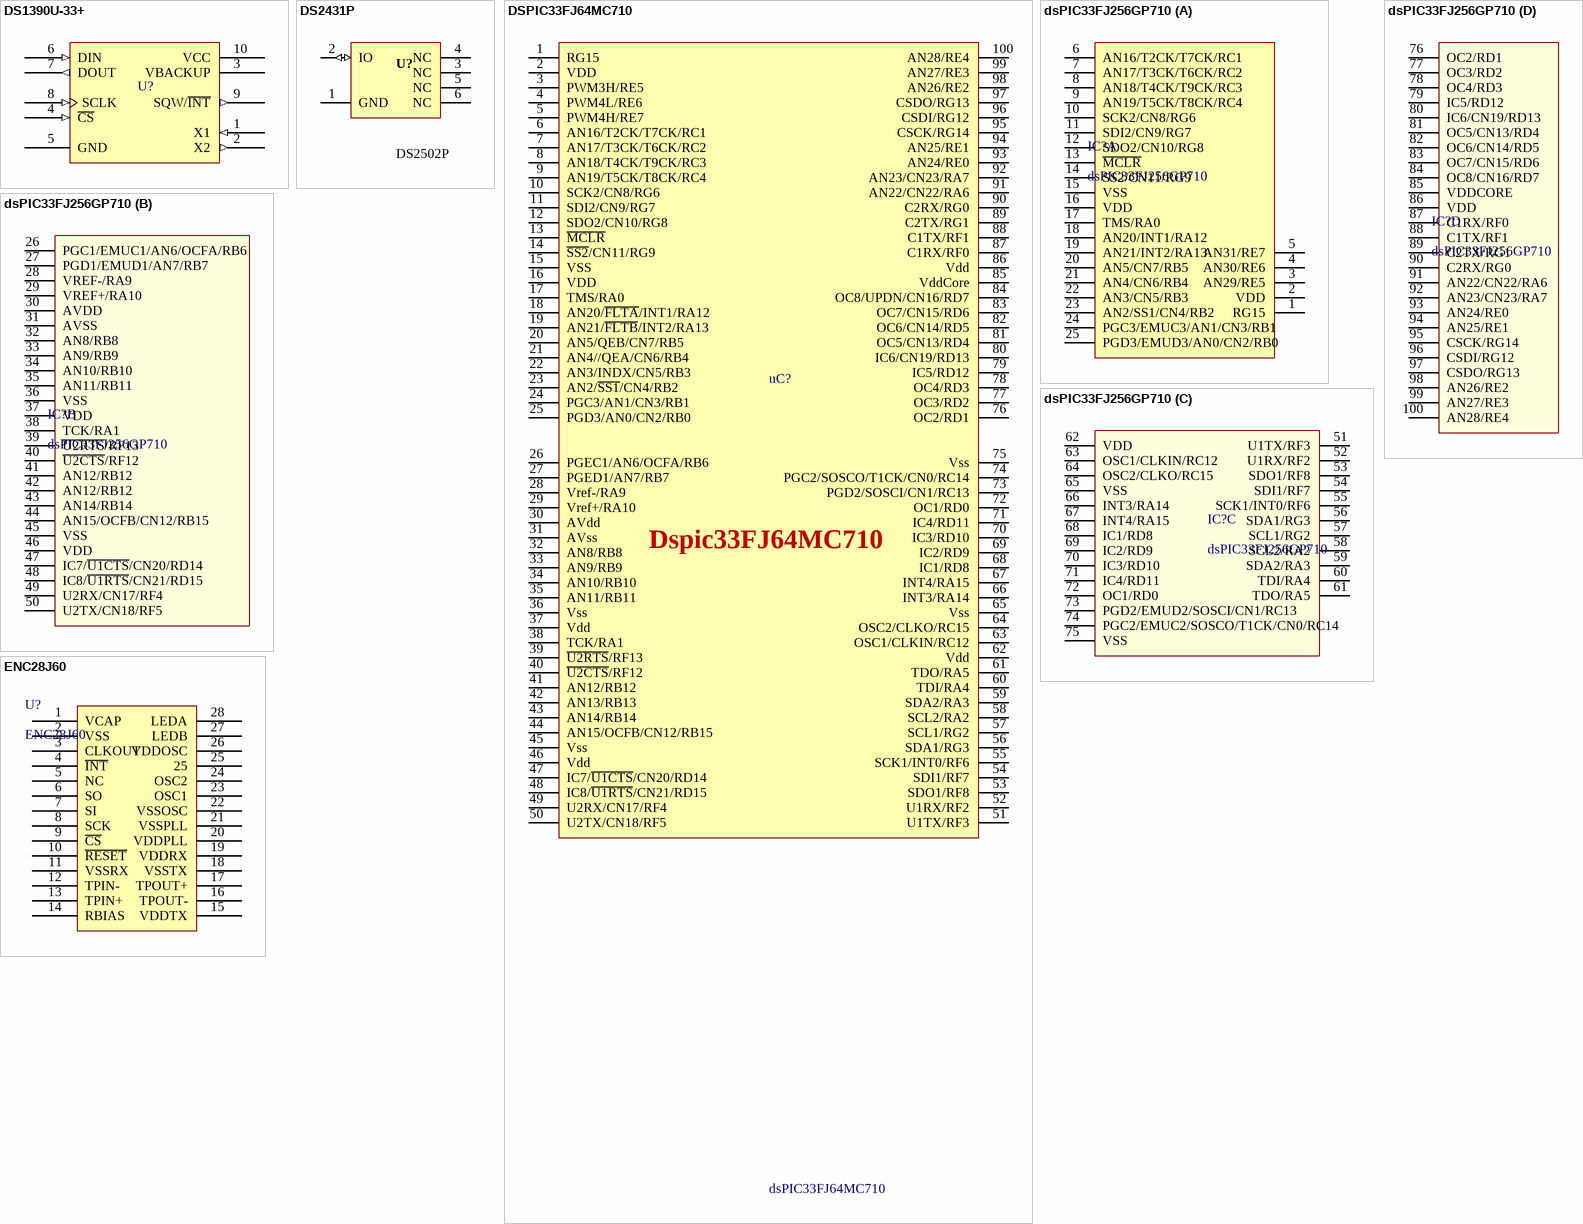
[diagram p20: symbols DS1390U-33+ to ENC28J60]

## DS1390U-33+
designator U?
Low-Voltage SPI/3-Wire Real-time Clock with Trickle Charger; Published: 30-May-2008; DatasheetVersion: Rev 1; 1/07; PackageVersion: revJ, Oct-2007; PackageReference: 10uSOP; Publisher: Altium Limited; PackageDescription: 10-Pin Thin Shrink Small Outline Package 0.5 mm Pitch; Code_JEDEC: MO-187C-BA; ComponentLink1Description: Manufacturer Link; ComponentLink1URL: http://www.maxim-ic.com/; ComponentLink2Description: Datasheet; ComponentLink2URL: http://datasheets.maxim-ic.com/en/ds/DS1390-DS1393.pdf
footprint TSSOP10 (TSSOP, 10-Leads, Body 3x3mm, Pitch 0.5mm, IPC High Density)
pins: 1 X1 (in), 2 X2 (out), 3 VBACKUP (power), 4 ~{CS} (in), 5 GND (power), 6 DIN (in), 7 DOUT (out), 8 SCLK (in), 9 SQW/~{INT} (out), 10 VCC (power)

## DS2431P
designator U?, comment DS2502P
EPROM, 1-wire, 1024-bit, Surface Mount; Bit Length: Bits; Speed: 15.4 or 125 kbps ps; Supply Voltage: 2.8 to 6 V; Bit Width: Bits; Mounting Technology: Surface Mount; Status: Unreleased; Technology: EE; Temperature Range: -40 to +85 degC; Category: IC-PROM
footprint SO6-J (SOJ, 6-Leads, Body 4.00x4.30mm, Pitch 1.27mm, IPC Low Density)
pins: 1 GND (power), 2 IO (io), 3 NC, 4 NC, 5 NC, 6 NC

## DSPIC33FJ64MC710
designator uC?, comment dsPIC33FJ64MC710
dsPIC33FJ64/128/256_MC710
footprint TQFP100L (TQFP, 100-Leads, Body 14.00x14.00mm, Pitch 0.50mm, IPC High Density)
pins: 1 RG15, 2 VDD, 3 PWM3H/RE5, 4 PWM4L/RE6, 5 PWM4H/RE7, 6 AN16/T2CK/T7CK/RC1, 7 AN17/T3CK/T6CK/RC2, 8 AN18/T4CK/T9CK/RC3, 9 AN19/T5CK/T8CK/RC4, 10 SCK2/CN8/RG6, 11 SDI2/CN9/RG7, 12 SDO2/CN10/RG8, 13 ~{MCLR}, 14 ~{SS2}/CN11/RG9, 15 VSS, 16 VDD, 17 TMS/RA0, 18 AN20/~{FLTA}/INT1/RA12, 19 AN21/~{FLTB}/INT2/RA13, 20 AN5/QEB/CN7/RB5, 21 AN4//QEA/CN6/RB4, 22 AN3/INDX/CN5/RB3, 23 AN2/~{SS1}/CN4/RB2, 24 PGC3/AN1/CN3/RB1, 25 PGD3/AN0/CN2/RB0, 26 PGEC1/AN6/OCFA/RB6, 27 PGED1/AN7/RB7, 28 Vref-/RA9, 29 Vref+/RA10, 30 AVdd, 31 AVss, 32 AN8/RB8, 33 AN9/RB9, 34 AN10/RB10, 35 AN11/RB11, 36 Vss, 37 Vdd, 38 TCK/RA1, 39 ~{U2RTS}/RF13, 40 ~{U2CTS}/RF12, 41 AN12/RB12, 42 AN13/RB13, 43 AN14/RB14, 44 AN15/OCFB/CN12/RB15, 45 Vss, 46 Vdd, 47 IC7/~{U1CTS}/CN20/RD14, 48 IC8/~{U1RTS}/CN21/RD15, 49 U2RX/CN17/RF4, 50 U2TX/CN18/RF5, 51 U1TX/RF3, 52 U1RX/RF2, 53 SDO1/RF8, 54 SDI1/RF7, 55 SCK1/INT0/RF6, 56 SDA1/RG3, 57 SCL1/RG2, 58 SCL2/RA2, 59 SDA2/RA3, 60 TDI/RA4, 61 TDO/RA5, 62 Vdd, 63 OSC1/CLKIN/RC12, 64 OSC2/CLKO/RC15, 65 Vss, 66 INT3/RA14, 67 INT4/RA15, 68 IC1/RD8, 69 IC2/RD9, 70 IC3/RD10, 71 IC4/RD11, 72 OC1/RD0, 73 PGD2/SOSCI/CN1/RC13, 74 PGC2/SOSCO/T1CK/CN0/RC14, 75 Vss, 76 OC2/RD1, 77 OC3/RD2, 78 OC4/RD3, 79 IC5/RD12, 80 IC6/CN19/RD13, 81 OC5/CN13/RD4, 82 OC6/CN14/RD5, 83 OC7/CN15/RD6, 84 OC8/UPDN/CN16/RD7, 85 VddCore, 86 Vdd, 87 C1RX/RF0, 88 C1TX/RF1, 89 C2TX/RG1, 90 C2RX/RG0, 91 AN22/CN22/RA6, 92 AN23/CN23/RA7, 93 AN24/RE0, 94 AN25/RE1, 95 CSCK/RG14, 96 CSDI/RG12, 97 CSDO/RG13, 98 AN26/RE2, 99 AN27/RE3, 100 AN28/RE4
text: Dspic33FJ64MC710

## dsPIC33FJ256GP710
designator IC?
PIC33FJ256GP710; Value: DIP100
footprint TQFP100L (TQFP, 100-Leads, Body 14.00x14.00mm, Pitch 0.50mm, IPC High Density)
part A pins: 1 RG15, 2 VDD, 3 AN29/RE5, 4 AN30/RE6, 5 AN31/RE7, 6 AN16/T2CK/T7CK/RC1, 7 AN17/T3CK/T6CK/RC2, 8 AN18/T4CK/T9CK/RC3, 9 AN19/T5CK/T8CK/RC4, 10 SCK2/CN8/RG6, 11 SDI2/CN9/RG7, 12 SDO2/CN10/RG8, 13 ~{MCLR}, 14 SS2/CN11/RG9, 15 VSS, 16 VDD, 17 TMS/RA0, 18 AN20/INT1/RA12, 19 AN21/INT2/RA13, 20 AN5/CN7/RB5, 21 AN4/CN6/RB4, 22 AN3/CN5/RB3, 23 AN2/SS1/CN4/RB2, 24 PGC3/EMUC3/AN1/CN3/RB1, 25 PGD3/EMUD3/AN0/CN2/RB0
part B pins: 26 PGC1/EMUC1/AN6/OCFA/RB6, 27 PGD1/EMUD1/AN7/RB7, 28 VREF-/RA9, 29 VREF+/RA10, 30 AVDD, 31 AVSS, 32 AN8/RB8, 33 AN9/RB9, 34 AN10/RB10, 35 AN11/RB11, 36 VSS, 37 VDD, 38 TCK/RA1, 39 ~{U2RTS}/RF13, 40 ~{U2CTS}/RF12, 41 AN12/RB12, 42 AN12/RB12, 43 AN14/RB14, 44 AN15/OCFB/CN12/RB15, 45 VSS, 46 VDD, 47 IC7/~{U1CTS}/CN20/RD14, 48 IC8/~{U1RTS}/CN21/RD15, 49 U2RX/CN17/RF4, 50 U2TX/CN18/RF5
part C pins: 51 U1TX/RF3, 52 U1RX/RF2, 53 SDO1/RF8, 54 SDI1/RF7, 55 SCK1/INT0/RF6, 56 SDA1/RG3, 57 SCL1/RG2, 58 SCL2/RA2, 59 SDA2/RA3, 60 TDI/RA4, 61 TDO/RA5, 62 VDD, 63 OSC1/CLKIN/RC12, 64 OSC2/CLKO/RC15, 65 VSS, 66 INT3/RA14, 67 INT4/RA15, 68 IC1/RD8, 69 IC2/RD9, 70 IC3/RD10, 71 IC4/RD11, 72 OC1/RD0, 73 PGD2/EMUD2/SOSCI/CN1/RC13, 74 PGC2/EMUC2/SOSCO/T1CK/CN0/RC14, 75 VSS
part D pins: 76 OC2/RD1, 77 OC3/RD2, 78 OC4/RD3, 79 IC5/RD12, 80 IC6/CN19/RD13, 81 OC5/CN13/RD4, 82 OC6/CN14/RD5, 83 OC7/CN15/RD6, 84 OC8/CN16/RD7, 85 VDDCORE, 86 VDD, 87 C1RX/RF0, 88 C1TX/RF1, 89 C2TX/RG1, 90 C2RX/RG0, 91 AN22/CN22/RA6, 92 AN23/CN23/RA7, 93 AN24/RE0, 94 AN25/RE1, 95 CSCK/RG14, 96 CSDI/RG12, 97 CSDO/RG13, 98 AN26/RE2, 99 AN27/RE3, 100 AN28/RE4

## ENC28J60
designator U?
Stand-Alone Ethernet Controller with SPI Interface
footprint DIP28 (28 PIN, W 300mil, Pin to pin 100mil)
footprint SO28 (SOIC, 28-Leads, Body 18.00x7.50mm, Pitch 1.27mm, IPC Medium Density)
footprint TSSOP28 (TSSOP, 28-Leads, Body 10.20x5.30mm, Pitch 0.65mm, IPC High Density)
pins: 1 VCAP, 2 VSS, 3 CLKOUT, 4 ~{INT}, 5 NC, 6 SO, 7 SI, 8 SCK, 9 ~{CS}, 10 ~{RESET}, 11 VSSRX, 12 TPIN-, 13 TPIN+, 14 RBIAS, 15 VDDTX, 16 TPOUT-, 17 TPOUT+, 18 VSSTX, 19 VDDRX, 20 VDDPLL, 21 VSSPLL, 22 VSSOSC, 23 OSC1, 24 OSC2, 25, 26 VDDOSC, 27 LEDB, 28 LEDA

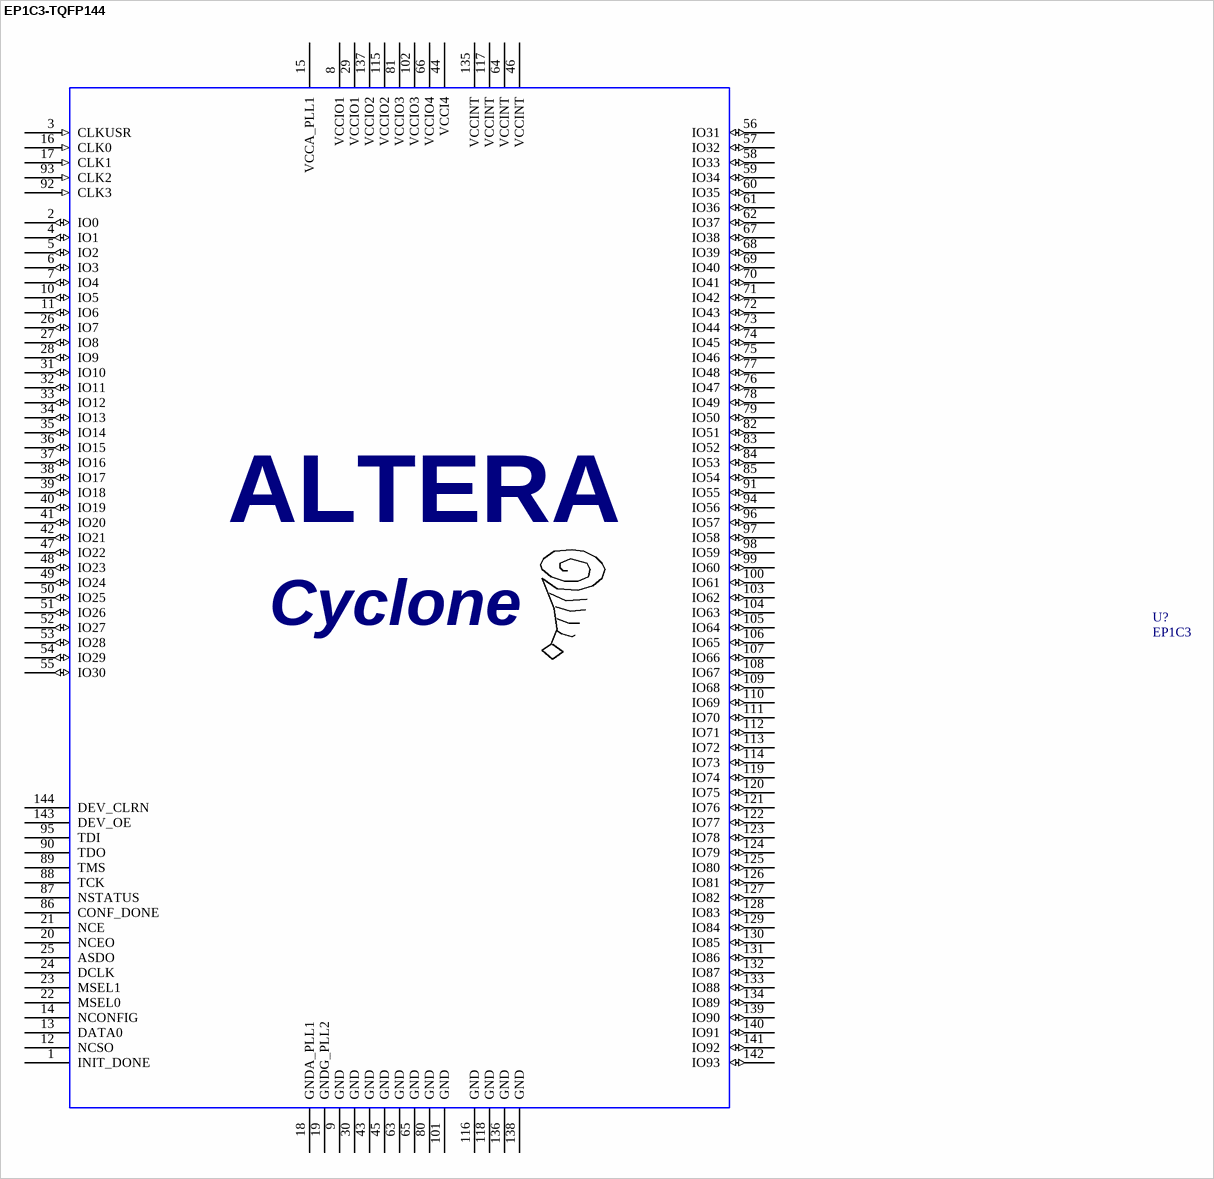
[diagram p21: symbol EP1C3-TQFP144]

## EP1C3-TQFP144
designator U?, comment EP1C3
ALTERA CYCLONE EP1C3 144 TQFP; Manufacturer Part Number: EP1C3T144C6N; Number of Registers: 2910; Number of I /O: 104; Voltage - Supply: 1.4 V ~ 3.6 V; Supplier 1: Digi-Key; Supplier Part Number 1: 544-1662-ND; Operating Temperature: 0°C ~ 85°C; Supplier: Digi-Key; Package / Case: 144-TQFP, 144-VQFP; RoHS: RoHS Compliant; Supplier Part Number: 544-1662-ND; Delay Time: -; Number of Logic Blocks/Elements: 2910; Category: Integrated Circuits (ICs); Number of Gates: -; Manufacturer: Altera
footprint TQFP144
pins: 1 INIT_DONE, 2 IO0 (io), 3 CLKUSR (in), 4 IO1 (io), 5 IO2 (io), 6 IO3 (io), 7 IO4 (io), 8 VCCIO1 (power), 9 GND (power), 10 IO5 (io), 11 IO6 (io), 12 NCSO, 13 DATA0, 14 NCONFIG, 15 VCCA_PLL1 (power), 16 CLK0 (in), 17 CLK1 (in), 18 GNDA_PLL1 (power), 19 GNDG_PLL2 (power), 20 NCEO, 21 NCE, 22 MSEL0, 23 MSEL1, 24 DCLK, 25 ASDO, 26 IO7 (io), 27 IO8 (io), 28 IO9 (io), 29 VCCIO1 (power), 30 GND (power), 31 IO10 (io), 32 IO11 (io), 33 IO12 (io), 34 IO13 (io), 35 IO14 (io), 36 IO15 (io), 37 IO16 (io), 38 IO17 (io), 39 IO18 (io), 40 IO19 (io), 41 IO20 (io), 42 IO21 (io), 43 GND (power), 44 VCCI4 (power), 45 GND (power), 46 VCCINT (power), 47 IO22 (io), 48 IO23 (io), 49 IO24 (io), 50 IO25 (io), 51 IO26 (io), 52 IO27 (io), 53 IO28 (io), 54 IO29 (io), 55 IO30 (io), 56 IO31 (io), 57 IO32 (io), 58 IO33 (io), 59 IO34 (io), 60 IO35 (io), 61 IO36 (io), 62 IO37 (io), 63 GND (power), 64 VCCINT (power), 65 GND (power), 66 VCCIO4 (power), 67 IO38 (io), 68 IO39 (io), 69 IO40 (io), 70 IO41 (io), 71 IO42 (io), 72 IO43 (io), 73 IO44 (io), 74 IO45 (io), 75 IO46 (io), 76 IO47 (io), 77 IO48 (io), 78 IO49 (io), 79 IO50 (io), 80 GND (power), 81 VCCIO3 (power), 82 IO51 (io), 83 IO52 (io), 84 IO53 (io), 85 IO54 (io), 86 CONF_DONE, 87 NSTATUS, 88 TCK, 89 TMS, 90 TDO, 91 IO55 (io), 92 CLK3 (in), 93 CLK2 (in), 94 IO56 (io), 95 TDI, 96 IO57 (io), 97 IO58 (io), 98 IO59 (io), 99 IO60 (io), 100 IO61 (io), 101 GND (power), 102 VCCIO3 (power), 103 IO62 (io), 104 IO63 (io), 105 IO64 (io), 106 IO65 (io), 107 IO66 (io), 108 IO67 (io), 109 IO68 (io), 110 IO69 (io), 111 IO70 (io), 112 IO71 (io), 113 IO72 (io), 114 IO73 (io), 115 VCCIO2 (power), 116 GND (power), 117 VCCINT (power), 118 GND (power), 119 IO74 (io), 120 IO75 (io), 121 IO76 (io), 122 IO77 (io), 123 IO78 (io), 124 IO79 (io), 125 IO80 (io), 126 IO81 (io), 127 IO82 (io), 128 IO83 (io), 129 IO84 (io), 130 IO85 (io), 131 IO86 (io), 132 IO87 (io), 133 IO88 (io), 134 IO89 (io), 135 VCCINT (power), 136 GND (power), 137 VCCIO2 (power), 138 GND (power), 139 IO90 (io), 140 IO91 (io), 141 IO92 (io), 142 IO93 (io), 143 DEV_OE, 144 DEV_CLRN
text: ALTERA; Cyclone

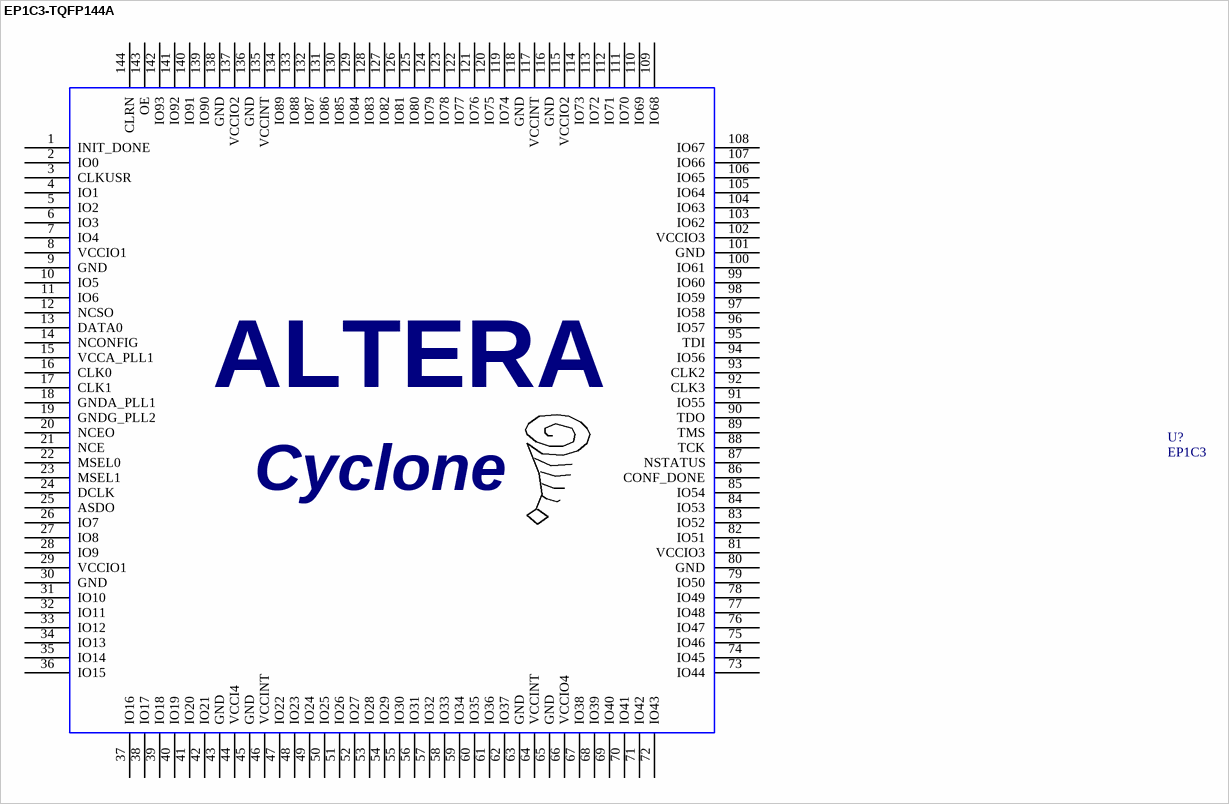
[diagram p22: symbol EP1C3-TQFP144A]

## EP1C3-TQFP144A
designator U?, comment EP1C3
ALTERA CYCLONE EP1C3 144 TQFP; Manufacturer Part Number: EP1C3T144C6N; Number of Registers: 2910; Number of I /O: 104; Voltage - Supply: 1.4 V ~ 3.6 V; Supplier 1: Digi-Key; Supplier Part Number 1: 544-1662-ND; Operating Temperature: 0°C ~ 85°C; Supplier: Digi-Key; Package / Case: 144-TQFP, 144-VQFP; RoHS: RoHS Compliant; Supplier Part Number: 544-1662-ND; Delay Time: -; Number of Logic Blocks/Elements: 2910; Category: Integrated Circuits (ICs); Number of Gates: -; Manufacturer: Altera
footprint TQFP144
pins: 1 INIT_DONE, 2 IO0, 3 CLKUSR, 4 IO1, 5 IO2, 6 IO3, 7 IO4, 8 VCCIO1, 9 GND, 10 IO5, 11 IO6, 12 NCSO, 13 DATA0, 14 NCONFIG, 15 VCCA_PLL1, 16 CLK0, 17 CLK1, 18 GNDA_PLL1, 19 GNDG_PLL2, 20 NCEO, 21 NCE, 22 MSEL0, 23 MSEL1, 24 DCLK, 25 ASDO, 26 IO7, 27 IO8, 28 IO9, 29 VCCIO1, 30 GND, 31 IO10, 32 IO11, 33 IO12, 34 IO13, 35 IO14, 36 IO15, 37 IO16, 38 IO17, 39 IO18, 40 IO19, 41 IO20, 42 IO21, 43 GND, 44 VCCI4, 45 GND, 46 VCCINT, 47 IO22, 48 IO23, 49 IO24, 50 IO25, 51 IO26, 52 IO27, 53 IO28, 54 IO29, 55 IO30, 56 IO31, 57 IO32, 58 IO33, 59 IO34, 60 IO35, 61 IO36, 62 IO37, 63 GND, 64 VCCINT, 65 GND, 66 VCCIO4, 67 IO38, 68 IO39, 69 IO40, 70 IO41, 71 IO42, 72 IO43, 73 IO44, 74 IO45, 75 IO46, 76 IO47, 77 IO48, 78 IO49, 79 IO50, 80 GND, 81 VCCIO3, 82 IO51, 83 IO52, 84 IO53, 85 IO54, 86 CONF_DONE, 87 NSTATUS, 88 TCK, 89 TMS, 90 TDO, 91 IO55, 92 CLK3, 93 CLK2, 94 IO56, 95 TDI, 96 IO57, 97 IO58, 98 IO59, 99 IO60, 100 IO61, 101 GND, 102 VCCIO3, 103 IO62, 104 IO63, 105 IO64, 106 IO65, 107 IO66, 108 IO67, 109 IO68, 110 IO69, 111 IO70, 112 IO71, 113 IO72, 114 IO73, 115 VCCIO2, 116 GND, 117 VCCINT, 118 GND, 119 IO74, 120 IO75, 121 IO76, 122 IO77, 123 IO78, 124 IO79, 125 IO80, 126 IO81, 127 IO82, 128 IO83, 129 IO84, 130 IO85, 131 IO86, 132 IO87, 133 IO88, 134 IO89, 135 VCCINT, 136 GND, 137 VCCIO2, 138 GND, 139 IO90, 140 IO91, 141 IO92, 142 IO93, 143 OE, 144 CLRN
text: ALTERA; Cyclone

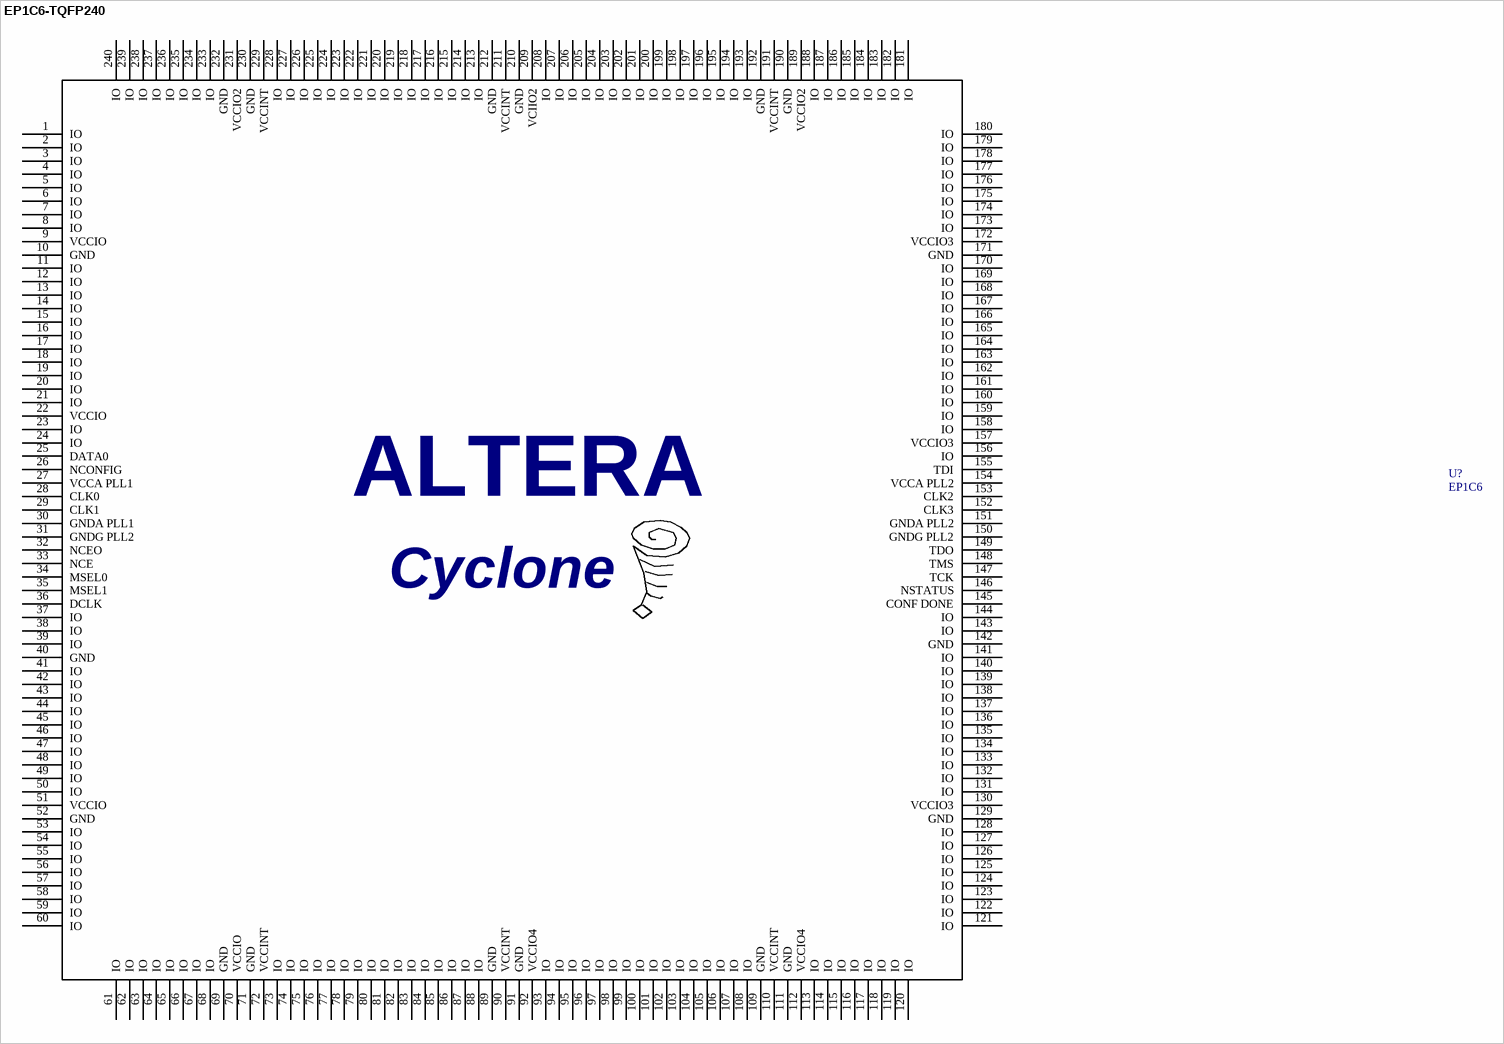
[diagram p23: symbol EP1C6-TQFP240]

## EP1C6-TQFP240
designator U?, comment EP1C6
ALTERA CYCLONE EP1C6 QFP 240; Manufacturer Part Number: EP1C6Q240I7; Number of Logic Blocks/Elements: 5980; Number of I /O: 185; Voltage - Supply: 1.4 V ~ 3.6 V; Supplier 1: Digi-Key; Supplier Part Number 1: 544-1086-ND; Package / Case: 240-MQFP, 240-PQFP; Category: Integrated Circuits (ICs); Supplier: Digi-Key; Manufacturer: Altera; Operating Temperature: -40°C ~ 100°C; Number of Registers: 5980; Supplier Part Number: 544-1086-ND; Delay Time: -; Number of Gates: -; RoHS: RoHS non-compliant
footprint QFP240
pins: 1 IO, 2 IO, 3 IO, 4 IO, 5 IO, 6 IO, 7 IO, 8 IO, 9 VCCIO, 10 GND, 11 IO, 12 IO, 13 IO, 14 IO, 15 IO, 16 IO, 17 IO, 18 IO, 19 IO, 20 IO, 21 IO, 22 VCCIO, 23 IO, 24 IO, 25 DATA0, 26 NCONFIG, 27 VCCA PLL1, 28 CLK0, 29 CLK1, 30 GNDA PLL1, 31 GNDG PLL2, 32 NCEO, 33 NCE, 34 MSEL0, 35 MSEL1, 36 DCLK, 37 IO, 38 IO, 39 IO, 40 GND, 41 IO, 42 IO, 43 IO, 44 IO, 45 IO, 46 IO, 47 IO, 48 IO, 49 IO, 50 IO, 51 VCCIO, 52 GND, 53 IO, 54 IO, 55 IO, 56 IO, 57 IO, 58 IO, 59 IO, 60 IO, 61 IO, 62 IO, 63 IO, 64 IO, 65 IO, 66 IO, 67 IO, 68 IO, 69 GND, 70 VCCIO, 71 GND, 72 VCCINT, 73 IO, 74 IO, 75 IO, 76 IO, 77 IO, 78 IO, 79 IO, 80 IO, 81 IO, 82 IO, 83 IO, 84 IO, 85 IO, 86 IO, 87 IO, 88 IO, 89 GND, 90 VCCINT, 91 GND, 92 VCCIO4, 93 IO, 94 IO, 95 IO, 96 IO, 97 IO, 98 IO, 99 IO, 100 IO, 101 IO, 102 IO, 103 IO, 104 IO, 105 IO, 106 IO, 107 IO, 108 IO, 109 GND, 110 VCCINT, 111 GND, 112 VCCIO4, 113 IO, 114 IO, 115 IO, 116 IO, 117 IO, 118 IO, 119 IO, 120 IO, 121 IO, 122 IO, 123 IO, 124 IO, 125 IO, 126 IO, 127 IO, 128 IO, 129 GND, 130 VCCIO3, 131 IO, 132 IO, 133 IO, 134 IO, 135 IO, 136 IO, 137 IO, 138 IO, 139 IO, 140 IO, 141 IO, 142 GND, 143 IO, 144 IO, 145 CONF DONE, 146 NSTATUS, 147 TCK, 148 TMS, 149 TDO, 150 GNDG PLL2, 151 GNDA PLL2, 152 CLK3, 153 CLK2, 154 VCCA PLL2, 155 TDI, 156 IO, 157 VCCIO3, 158 IO, 159 IO, 160 IO, 161 IO, 162 IO, 163 IO, 164 IO, 165 IO, 166 IO, 167 IO, 168 IO, 169 IO, 170 IO, 171 GND, 172 VCCIO3, 173 IO, 174 IO, 175 IO, 176 IO, 177 IO, 178 IO, 179 IO, 180 IO, 181 IO, 182 IO, 183 IO, 184 IO, 185 IO, 186 IO, 187 IO, 188 IO, 189 VCCIO2, 190 GND, 191 VCCINT, 192 GND, 193 IO, 194 IO, 195 IO, 196 IO, 197 IO, 198 IO, 199 IO, 200 IO, 201 IO, 202 IO, 203 IO, 204 IO, 205 IO, 206 IO, 207 IO, 208 IO, 209 VCIIO2, 210 GND, 211 VCCINT, 212 GND, 213 IO, 214 IO, 215 IO, 216 IO, 217 IO, 218 IO, 219 IO, 220 IO, 221 IO, 222 IO, 223 IO, 224 IO, 225 IO, 226 IO, 227 IO, 228 IO, 229 VCCINT, 230 GND, 231 VCCIO2, 232 GND, 233 IO, 234 IO, 235 IO, 236 IO, 237 IO, 238 IO, 239 IO, 240 IO
text: ALTERA; Cyclone

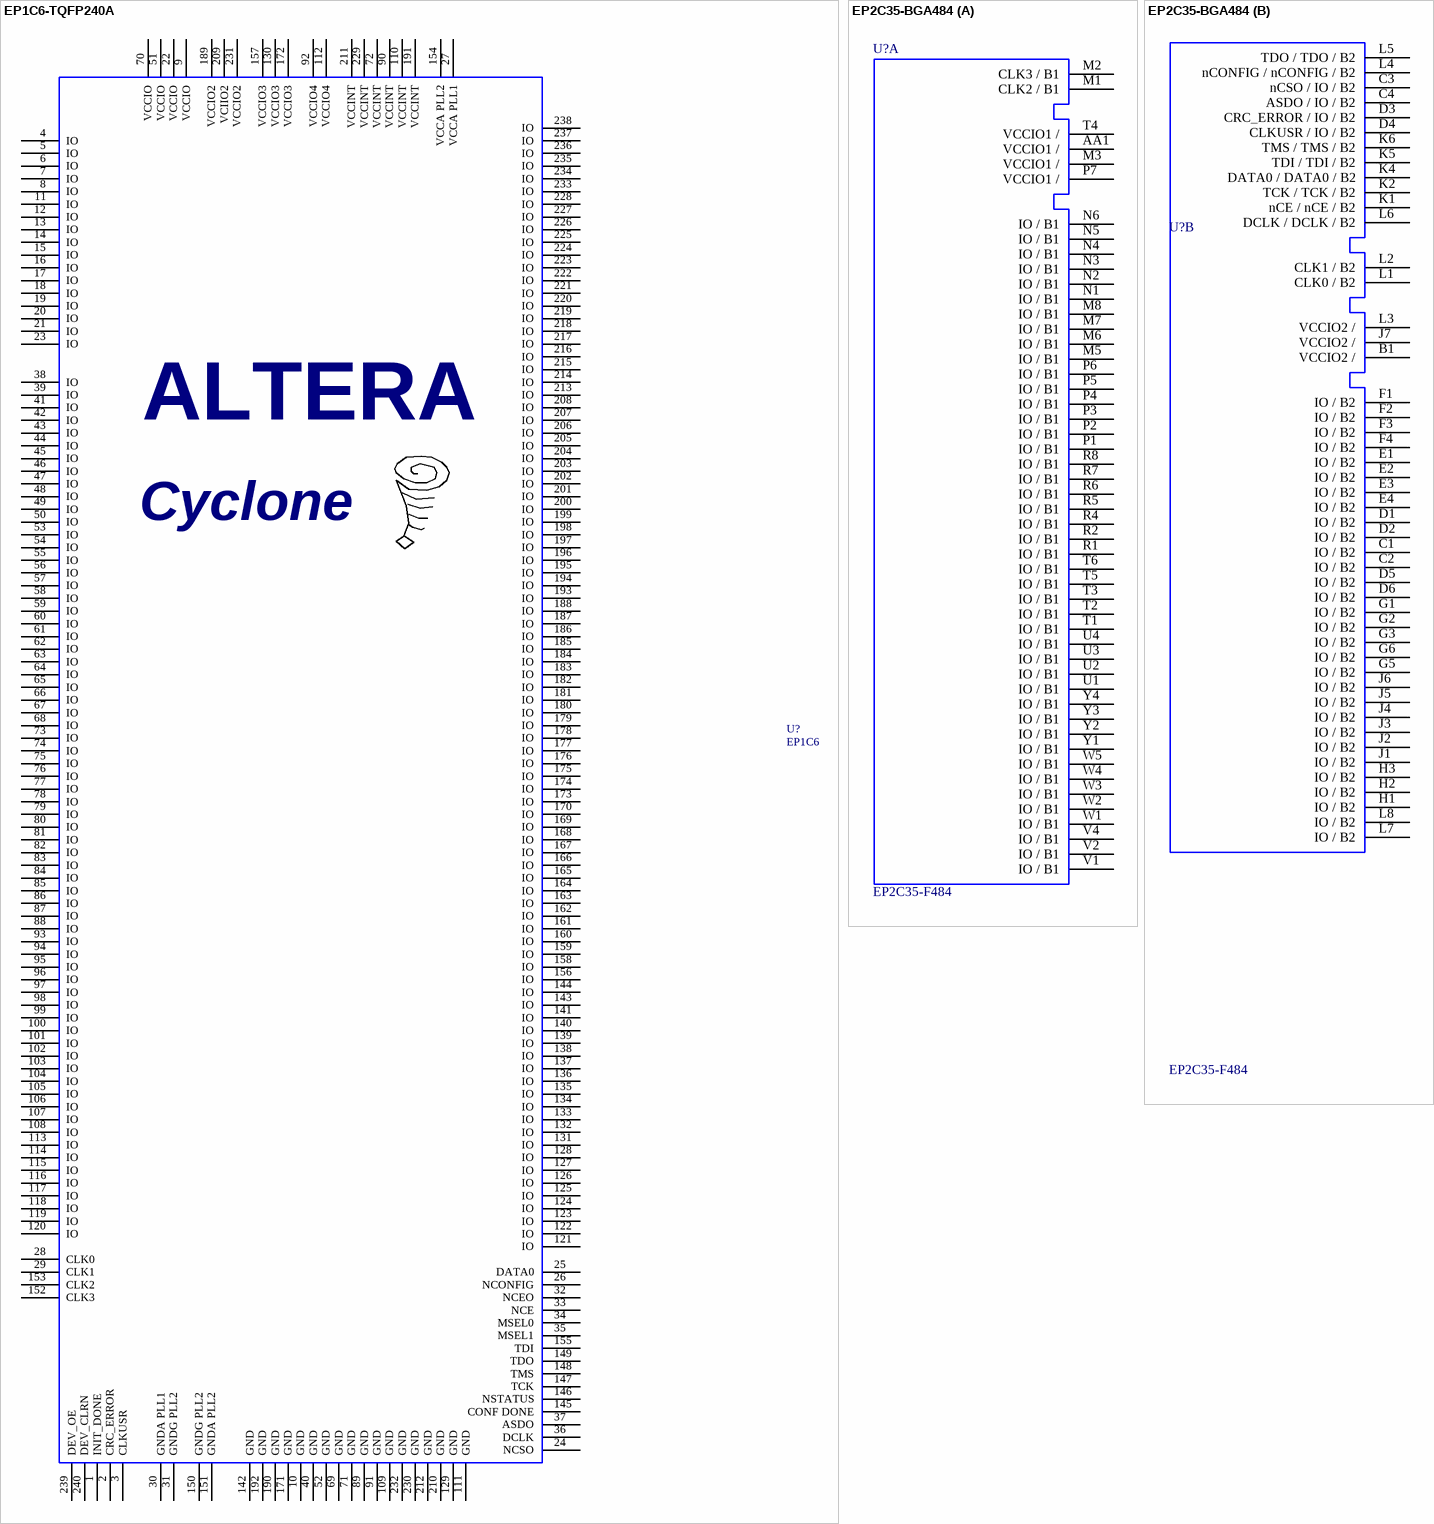
[diagram p24: symbols EP1C6-TQFP240A to EP2C35-BGA484]

## EP1C6-TQFP240A
designator U?, comment EP1C6
ALTERA CYCLONE EP1C6 QFP 240; Manufacturer Part Number: EP1C6Q240I7; Number of Logic Blocks/Elements: 5980; Number of I /O: 185; Voltage - Supply: 1.4 V ~ 3.6 V; Supplier 1: Digi-Key; Supplier Part Number 1: 544-1086-ND; Package / Case: 240-MQFP, 240-PQFP; Category: Integrated Circuits (ICs); Supplier: Digi-Key; Manufacturer: Altera; Operating Temperature: -40°C ~ 100°C; Number of Registers: 5980; Supplier Part Number: 544-1086-ND; Delay Time: -; Number of Gates: -; RoHS: RoHS non-compliant
footprint QFP240
pins: 1 INIT_DONE, 2 CRC_ERROR, 3 CLKUSR, 4 IO, 5 IO, 6 IO, 7 IO, 8 IO, 9 VCCIO, 10 GND, 11 IO, 12 IO, 13 IO, 14 IO, 15 IO, 16 IO, 17 IO, 18 IO, 19 IO, 20 IO, 21 IO, 22 VCCIO, 23 IO, 24 NCSO, 25 DATA0, 26 NCONFIG, 27 VCCA PLL1, 28 CLK0, 29 CLK1, 30 GNDA PLL1, 31 GNDG PLL2, 32 NCEO, 33 NCE, 34 MSEL0, 35 MSEL1, 36 DCLK, 37 ASDO, 38 IO, 39 IO, 40 GND, 41 IO, 42 IO, 43 IO, 44 IO, 45 IO, 46 IO, 47 IO, 48 IO, 49 IO, 50 IO, 51 VCCIO, 52 GND, 53 IO, 54 IO, 55 IO, 56 IO, 57 IO, 58 IO, 59 IO, 60 IO, 61 IO, 62 IO, 63 IO, 64 IO, 65 IO, 66 IO, 67 IO, 68 IO, 69 GND, 70 VCCIO, 71 GND, 72 VCCINT, 73 IO, 74 IO, 75 IO, 76 IO, 77 IO, 78 IO, 79 IO, 80 IO, 81 IO, 82 IO, 83 IO, 84 IO, 85 IO, 86 IO, 87 IO, 88 IO, 89 GND, 90 VCCINT, 91 GND, 92 VCCIO4, 93 IO, 94 IO, 95 IO, 96 IO, 97 IO, 98 IO, 99 IO, 100 IO, 101 IO, 102 IO, 103 IO, 104 IO, 105 IO, 106 IO, 107 IO, 108 IO, 109 GND, 110 VCCINT, 111 GND, 112 VCCIO4, 113 IO, 114 IO, 115 IO, 116 IO, 117 IO, 118 IO, 119 IO, 120 IO, 121 IO, 122 IO, 123 IO, 124 IO, 125 IO, 126 IO, 127 IO, 128 IO, 129 GND, 130 VCCIO3, 131 IO, 132 IO, 133 IO, 134 IO, 135 IO, 136 IO, 137 IO, 138 IO, 139 IO, 140 IO, 141 IO, 142 GND, 143 IO, 144 IO, 145 CONF DONE, 146 NSTATUS, 147 TCK, 148 TMS, 149 TDO, 150 GNDG PLL2, 151 GNDA PLL2, 152 CLK3, 153 CLK2, 154 VCCA PLL2, 155 TDI, 156 IO, 157 VCCIO3, 158 IO, 159 IO, 160 IO, 161 IO, 162 IO, 163 IO, 164 IO, 165 IO, 166 IO, 167 IO, 168 IO, 169 IO, 170 IO, 171 GND, 172 VCCIO3, 173 IO, 174 IO, 175 IO, 176 IO, 177 IO, 178 IO, 179 IO, 180 IO, 181 IO, 182 IO, 183 IO, 184 IO, 185 IO, 186 IO, 187 IO, 188 IO, 189 VCCIO2, 190 GND, 191 VCCINT, 192 GND, 193 IO, 194 IO, 195 IO, 196 IO, 197 IO, 198 IO, 199 IO, 200 IO, 201 IO, 202 IO, 203 IO, 204 IO, 205 IO, 206 IO, 207 IO, 208 IO, 209 VCIIO2, 210 GND, 211 VCCINT, 212 GND, 213 IO, 214 IO, 215 IO, 216 IO, 217 IO, 218 IO, 219 IO, 220 IO, 221 IO, 222 IO, 223 IO, 224 IO, 225 IO, 226 IO, 227 IO, 228 IO, 229 VCCINT, 230 GND, 231 VCCIO2, 232 GND, 233 IO, 234 IO, 235 IO, 236 IO, 237 IO, 238 IO, 239 DEV_OE, 240 DEV_CLRN
text: ALTERA; Cyclone

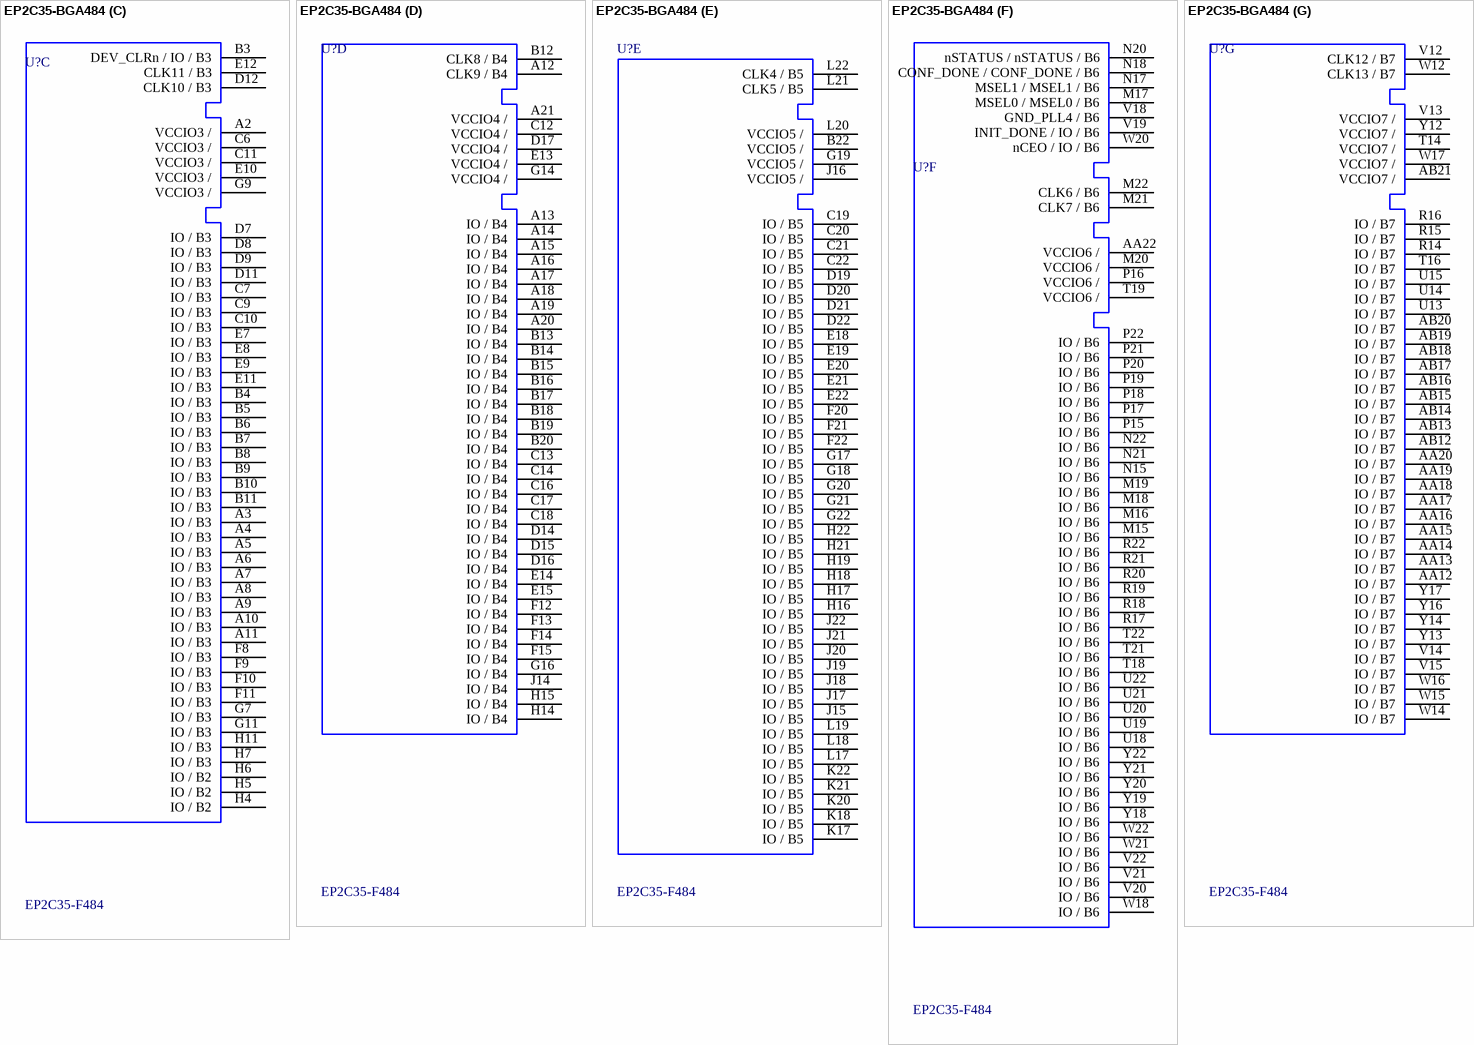
[diagram p25: symbol EP2C35-BGA484]

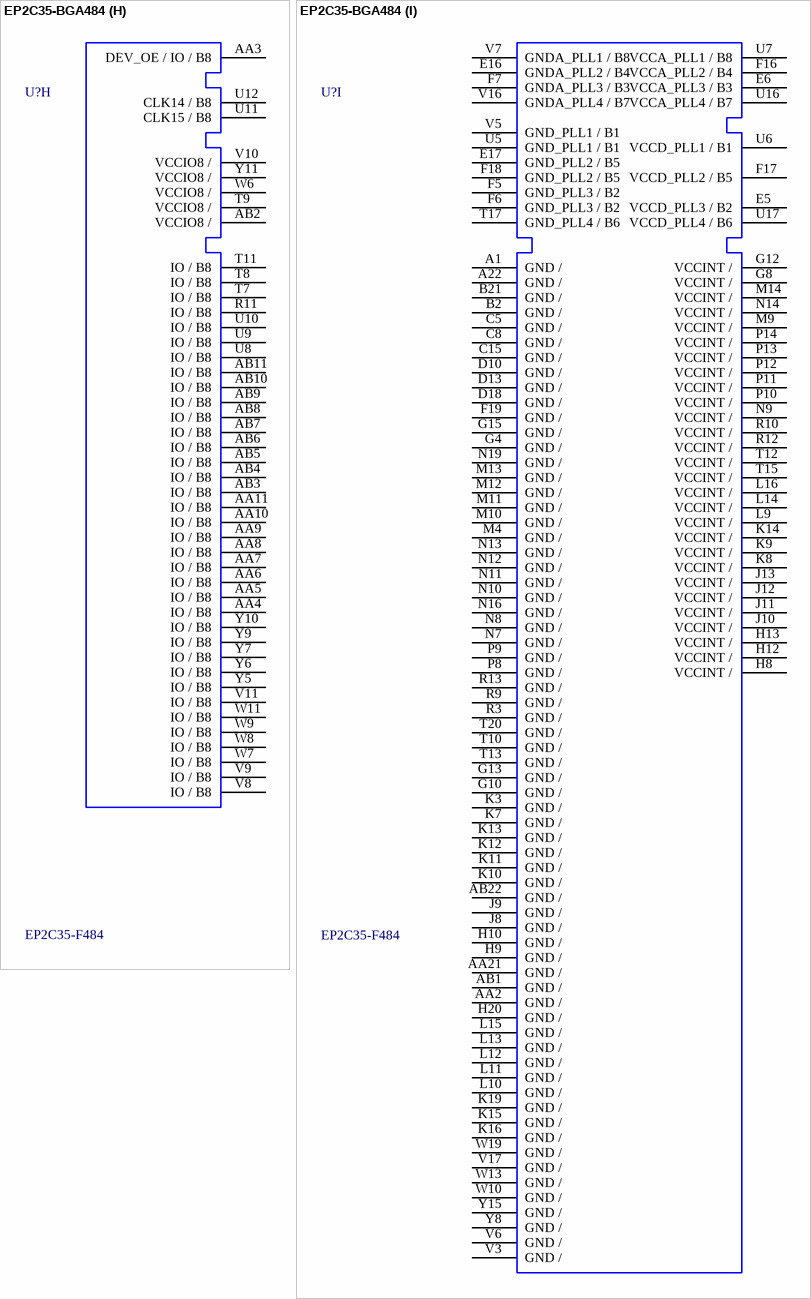
[diagram p26: symbol EP2C35-BGA484]

## EP2C35-BGA484
designator U?, comment EP2C35-F484
ALTERA 2C35 FPGA BGA484 PACKAGE; Manufacturer Part Number: EP2C35F484C8N; Number of I /O: 322; Number of Logic Blocks/Elements: 33216; Voltage - Supply: 1.15 V ~ 3.465 V; Supplier 1: Digi-Key; Supplier Part Number 1: 544-1366-ND; RoHS: RoHS Compliant; Number of Registers: -; Package / Case: 484-FBGA; Number of Gates: -; Category: Integrated Circuits (ICs); Supplier: Digi-Key; Delay Time: -; Operating Temperature: 0°C ~ 85°C; Manufacturer: Altera; Supplier Part Number: 544-1366-ND
footprint BGA484
part A pins: AA1 VCCIO1 /, M1 CLK2 / B1, M2 CLK3 / B1, M3 VCCIO1 /, M5 IO / B1, M6 IO / B1, M7 IO / B1, M8 IO / B1, N1 IO / B1, N2 IO / B1, N3 IO / B1, N4 IO / B1, N5 IO / B1, N6 IO / B1, P1 IO / B1, P2 IO / B1, P3 IO / B1, P4 IO / B1, P5 IO / B1, P6 IO / B1, P7 VCCIO1 /, R1 IO / B1, R2 IO / B1, R4 IO / B1, R5 IO / B1, R6 IO / B1, R7 IO / B1, R8 IO / B1, T1 IO / B1, T2 IO / B1, T3 IO / B1, T4 VCCIO1 /, T5 IO / B1, T6 IO / B1, U1 IO / B1, U2 IO / B1, U3 IO / B1, U4 IO / B1, V1 IO / B1, V2 IO / B1, V4 IO / B1, W1 IO / B1, W2 IO / B1, W3 IO / B1, W4 IO / B1, W5 IO / B1, Y1 IO / B1, Y2 IO / B1, Y3 IO / B1, Y4 IO / B1
part B pins: B1 VCCIO2 /, C1 IO / B2, C2 IO / B2, C3 nCSO / IO / B2, C4 ASDO / IO / B2, D1 IO / B2, D2 IO / B2, D3 CRC_ERROR / IO / B2, D4 CLKUSR / IO / B2, D5 IO / B2, D6 IO / B2, E1 IO / B2, E2 IO / B2, E3 IO / B2, E4 IO / B2, F1 IO / B2, F2 IO / B2, F3 IO / B2, F4 IO / B2, G1 IO / B2, G2 IO / B2, G3 IO / B2, G5 IO / B2, G6 IO / B2, H1 IO / B2, H2 IO / B2, H3 IO / B2, J1 IO / B2, J2 IO / B2, J3 IO / B2, J4 IO / B2, J5 IO / B2, J6 IO / B2, J7 VCCIO2 /, K1 nCE / nCE / B2, K2 TCK / TCK / B2, K4 DATA0 / DATA0 / B2, K5 TDI / TDI / B2, K6 TMS / TMS / B2, L1 CLK0 / B2, L2 CLK1 / B2, L3 VCCIO2 /, L4 nCONFIG / nCONFIG / B2, L5 TDO / TDO / B2, L6 DCLK / DCLK / B2, L7 IO / B2, L8 IO / B2
part C pins: A2 VCCIO3 /, A3 IO / B3, A4 IO / B3, A5 IO / B3, A6 IO / B3, A7 IO / B3, A8 IO / B3, A9 IO / B3, A10 IO / B3, A11 IO / B3, B3 DEV_CLRn / IO / B3, B4 IO / B3, B5 IO / B3, B6 IO / B3, B7 IO / B3, B8 IO / B3, B9 IO / B3, B10 IO / B3, B11 IO / B3, C6 VCCIO3 /, C7 IO / B3, C9 IO / B3, C10 IO / B3, C11 VCCIO3 /, D7 IO / B3, D8 IO / B3, D9 IO / B3, D11 IO / B3, D12 CLK10 / B3, E7 IO / B3, E8 IO / B3, E9 IO / B3, E10 VCCIO3 /, E11 IO / B3, E12 CLK11 / B3, F8 IO / B3, F9 IO / B3, F10 IO / B3, F11 IO / B3, G7 IO / B3, G9 VCCIO3 /, G11 IO / B3, H4 IO / B2, H5 IO / B2, H6 IO / B2, H7 IO / B3, H11 IO / B3
part D pins: A12 CLK9 / B4, A13 IO / B4, A14 IO / B4, A15 IO / B4, A16 IO / B4, A17 IO / B4, A18 IO / B4, A19 IO / B4, A20 IO / B4, A21 VCCIO4 /, B12 CLK8 / B4, B13 IO / B4, B14 IO / B4, B15 IO / B4, B16 IO / B4, B17 IO / B4, B18 IO / B4, B19 IO / B4, B20 IO / B4, C12 VCCIO4 /, C13 IO / B4, C14 IO / B4, C16 IO / B4, C17 IO / B4, C18 IO / B4, D14 IO / B4, D15 IO / B4, D16 IO / B4, D17 VCCIO4 /, E13 VCCIO4 /, E14 IO / B4, E15 IO / B4, F12 IO / B4, F13 IO / B4, F14 IO / B4, F15 IO / B4, G14 VCCIO4 /, G16 IO / B4, H14 IO / B4, H15 IO / B4, J14 IO / B4
part E pins: B22 VCCIO5 /, C19 IO / B5, C20 IO / B5, C21 IO / B5, C22 IO / B5, D19 IO / B5, D20 IO / B5, D21 IO / B5, D22 IO / B5, E18 IO / B5, E19 IO / B5, E20 IO / B5, E21 IO / B5, E22 IO / B5, F20 IO / B5, F21 IO / B5, F22 IO / B5, G17 IO / B5, G18 IO / B5, G19 VCCIO5 /, G20 IO / B5, G21 IO / B5, G22 IO / B5, H16 IO / B5, H17 IO / B5, H18 IO / B5, H19 IO / B5, H21 IO / B5, H22 IO / B5, J15 IO / B5, J16 VCCIO5 /, J17 IO / B5, J18 IO / B5, J19 IO / B5, J20 IO / B5, J21 IO / B5, J22 IO / B5, K17 IO / B5, K18 IO / B5, K20 IO / B5, K21 IO / B5, K22 IO / B5, L17 IO / B5, L18 IO / B5, L19 IO / B5, L20 VCCIO5 /, L21 CLK5 / B5, L22 CLK4 / B5
part F pins: AA22 VCCIO6 /, M15 IO / B6, M16 IO / B6, M17 MSEL0 / MSEL0 / B6, M18 IO / B6, M19 IO / B6, M20 VCCIO6 /, M21 CLK7 / B6, M22 CLK6 / B6, N15 IO / B6, N17 MSEL1 / MSEL1 / B6, N18 CONF_DONE / CONF_DONE / B6, N20 nSTATUS / nSTATUS / B6, N21 IO / B6, N22 IO / B6, P15 IO / B6, P16 VCCIO6 /, P17 IO / B6, P18 IO / B6, P19 IO / B6, P20 IO / B6, P21 IO / B6, P22 IO / B6, R17 IO / B6, R18 IO / B6, R19 IO / B6, R20 IO / B6, R21 IO / B6, R22 IO / B6, T18 IO / B6, T19 VCCIO6 /, T21 IO / B6, T22 IO / B6, U18 IO / B6, U19 IO / B6, U20 IO / B6, U21 IO / B6, U22 IO / B6, V18 GND_PLL4 / B6, V19 INIT_DONE / IO / B6, V20 IO / B6, V21 IO / B6, V22 IO / B6, W18 IO / B6, W20 nCEO / IO / B6, W21 IO / B6, W22 IO / B6, Y18 IO / B6, Y19 IO / B6, Y20 IO / B6, Y21 IO / B6, Y22 IO / B6
part G pins: AA12 IO / B7, AA13 IO / B7, AA14 IO / B7, AA15 IO / B7, AA16 IO / B7, AA17 IO / B7, AA18 IO / B7, AA19 IO / B7, AA20 IO / B7, AB12 IO / B7, AB13 IO / B7, AB14 IO / B7, AB15 IO / B7, AB16 IO / B7, AB17 IO / B7, AB18 IO / B7, AB19 IO / B7, AB20 IO / B7, AB21 VCCIO7 /, R14 IO / B7, R15 IO / B7, R16 IO / B7, T14 VCCIO7 /, T16 IO / B7, U13 IO / B7, U14 IO / B7, U15 IO / B7, V12 CLK12 / B7, V13 VCCIO7 /, V14 IO / B7, V15 IO / B7, W12 CLK13 / B7, W14 IO / B7, W15 IO / B7, W16 IO / B7, W17 VCCIO7 /, Y12 VCCIO7 /, Y13 IO / B7, Y14 IO / B7, Y16 IO / B7, Y17 IO / B7
part H pins: AA3 DEV_OE / IO / B8, AA4 IO / B8, AA5 IO / B8, AA6 IO / B8, AA7 IO / B8, AA8 IO / B8, AA9 IO / B8, AA10 IO / B8, AA11 IO / B8, AB2 VCCIO8 /, AB3 IO / B8, AB4 IO / B8, AB5 IO / B8, AB6 IO / B8, AB7 IO / B8, AB8 IO / B8, AB9 IO / B8, AB10 IO / B8, AB11 IO / B8, R11 IO / B8, T7 IO / B8, T8 IO / B8, T9 VCCIO8 /, T11 IO / B8, U8 IO / B8, U9 IO / B8, U10 IO / B8, U11 CLK15 / B8, U12 CLK14 / B8, V8 IO / B8, V9 IO / B8, V10 VCCIO8 /, V11 IO / B8, W6 VCCIO8 /, W7 IO / B8, W8 IO / B8, W9 IO / B8, W11 IO / B8, Y5 IO / B8, Y6 IO / B8, Y7 IO / B8, Y9 IO / B8, Y10 IO / B8, Y11 VCCIO8 /
part I pins: A1 GND /, A22 GND /, AA2 GND /, AA21 GND /, AB1 GND /, AB22 GND /, B2 GND /, B21 GND /, C5 GND /, C8 GND /, C15 GND /, D10 GND /, D13 GND /, D18 GND /, E5 VCCD_PLL3 / B2, E6 VCCA_PLL3 / B3, E16 GNDA_PLL2 / B4, E17 GND_PLL2 / B5, F5 GND_PLL3 / B2, F6 GND_PLL3 / B2, F7 GNDA_PLL3 / B3, F16 VCCA_PLL2 / B4, F17 VCCD_PLL2 / B5, F18 GND_PLL2 / B5, F19 GND /, G4 GND /, G8 VCCINT /, G10 GND /, G12 VCCINT /, G13 GND /, G15 GND /, H8 VCCINT /, H9 GND /, H10 GND /, H12 VCCINT /, H13 VCCINT /, H20 GND /, J8 GND /, J9 GND /, J10 VCCINT /, J11 VCCINT /, J12 VCCINT /, J13 VCCINT /, K3 GND /, K7 GND /, K8 VCCINT /, K9 VCCINT /, K10 GND /, K11 GND /, K12 GND /, K13 GND /, K14 VCCINT /, K15 GND /, K16 GND /, K19 GND /, L9 VCCINT /, L10 GND /, L11 GND /, L12 GND /, L13 GND /, L14 VCCINT /, L15 GND /, L16 VCCINT /, M4 GND /, M9 VCCINT /, M10 GND /, M11 GND /, M12 GND /, M13 GND /, M14 VCCINT /, N7 GND /, N8 GND /, N9 VCCINT /, N10 GND /, N11 GND /, N12 GND /, N13 GND /, N14 VCCINT /, N16 GND /, N19 GND /, P8 GND /, P9 GND /, P10 VCCINT /, P11 VCCINT /, P12 VCCINT /, P13 VCCINT /, P14 VCCINT /, R3 GND /, R9 GND /, R10 VCCINT /, R12 VCCINT /, R13 GND /, T10 GND /, T12 VCCINT /, T13 GND /, T15 VCCINT /, T17 GND_PLL4 / B6, T20 GND /, U5 GND_PLL1 / B1, U6 VCCD_PLL1 / B1, U7 VCCA_PLL1 / B8, U16 VCCA_PLL4 / B7, U17 VCCD_PLL4 / B6, V3 GND /, V5 GND_PLL1 / B1, V6 GND /, V7 GNDA_PLL1 / B8, V16 GNDA_PLL4 / B7, V17 GND /, W10 GND /, W13 GND /, W19 GND /, Y8 GND /, Y15 GND /

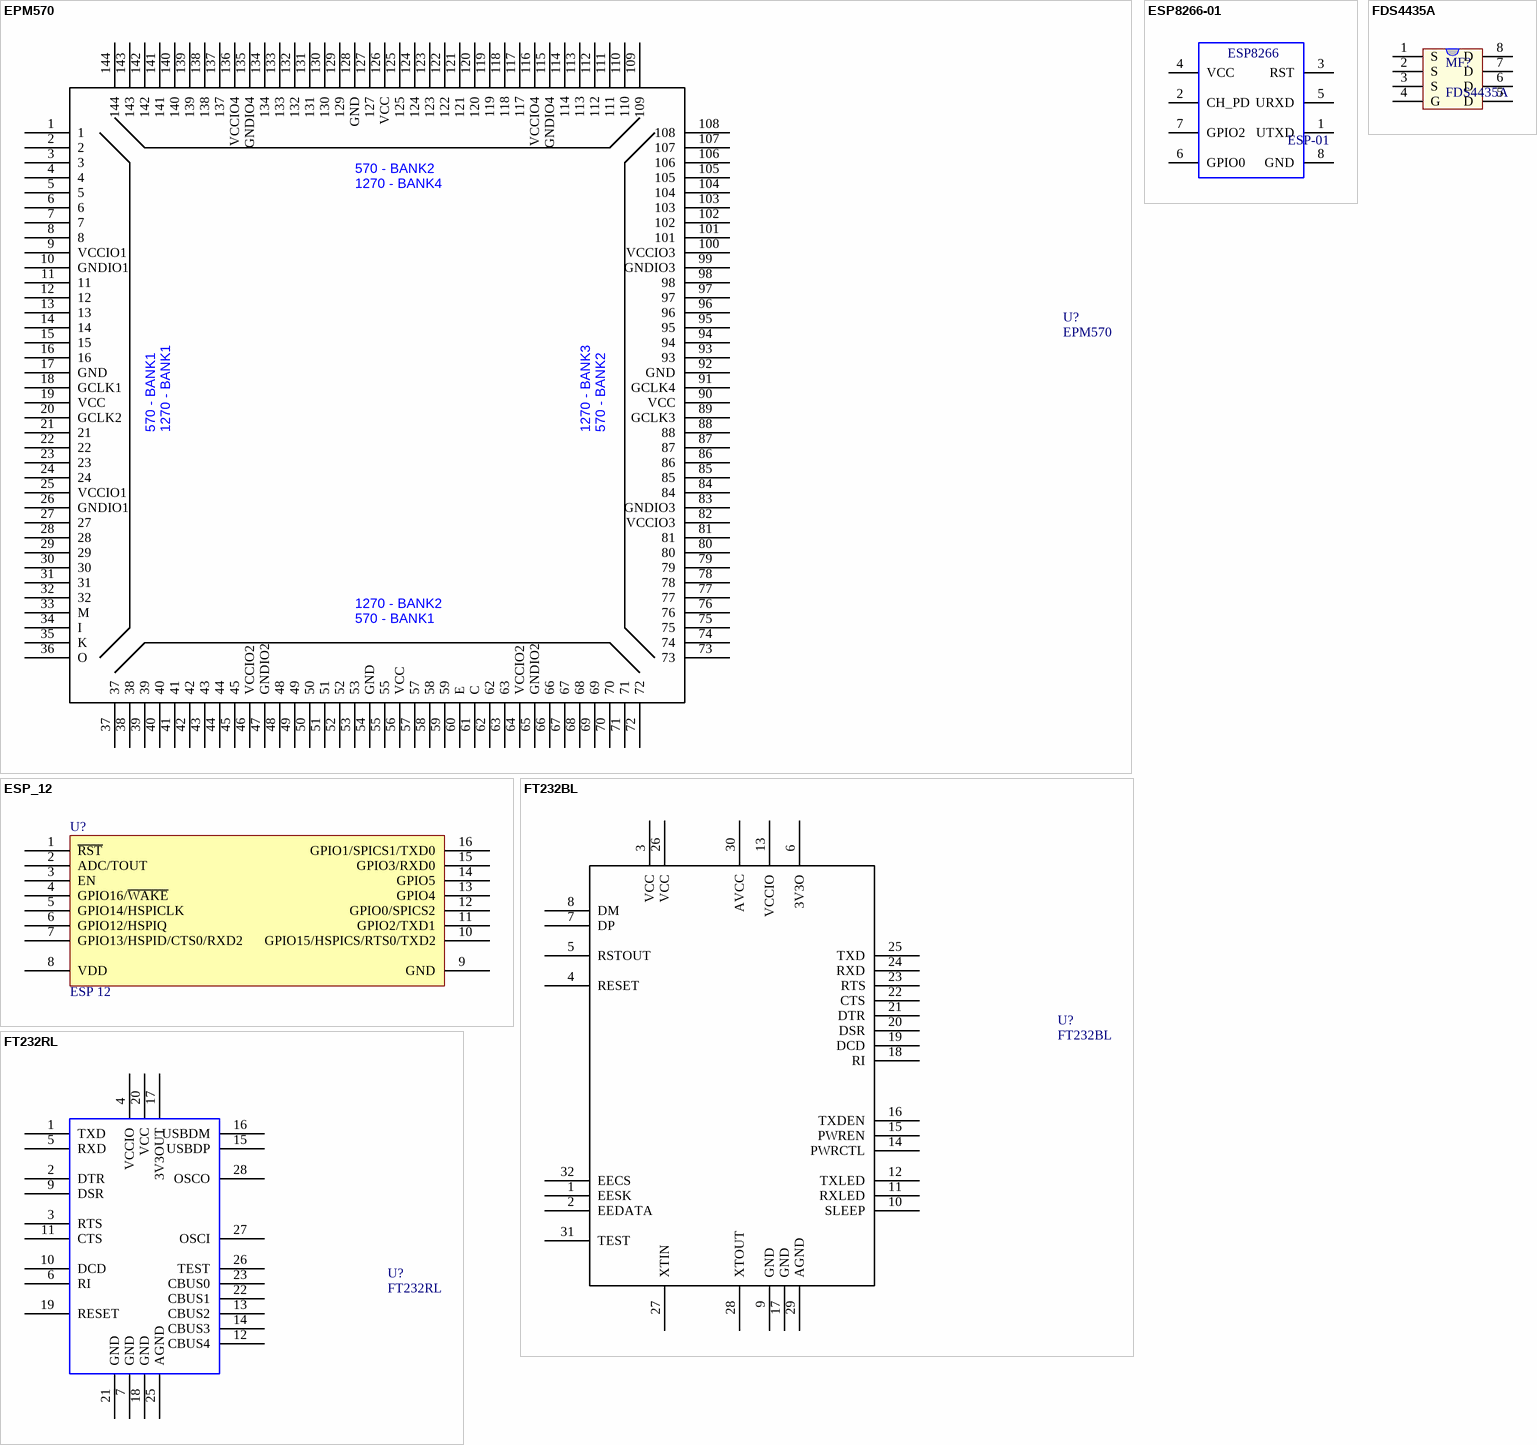
[diagram p27: symbols EPM570 to FT232RL]

## EPM570
designator U?
ALTERA EPLD; Manufacturer Part Number: EPM570T144C5N; Number of Logic Blocks/Elements: 570; Programmable Type: In System Programmable; Delay Time tpd(1) Max: 5.4nS; Voltage: 2.5V, 3.3V; Number of I /O: 116; Memory Type: FLASH; Number of Macrocells: 440; Supplier 1: Digi-Key; Supplier Part Number 1: 544-1320-ND; Operating Temperature: 0°C ~ 85°C; Packaging: Tray; Package / Case: 144-TQFP, 144-VQFP; RoHS: RoHS Compliant; Supplier: Digi-Key; Features: -; Supplier Part Number: 544-1320-ND; Manufacturer: Altera; Category: Integrated Circuits (ICs)
footprint TQFP144
pins: 1, 2, 3, 4, 5, 6, 7, 8, 9 VCCIO1, 10 GNDIO1, 11, 12, 13, 14, 15, 16, 17 GND, 18 GCLK1, 19 VCC, 20 GCLK2, 21, 22, 23, 24, 25 VCCIO1, 26 GNDIO1, 27, 28, 29, 30, 31, 32, 33 M, 34 I, 35 K, 36 O, 37, 38, 39, 40, 41, 42, 43, 44, 45, 46 VCCIO2, 47 GNDIO2, 48, 49, 50, 51, 52, 53, 54 GND, 55, 56 VCC, 57, 58, 59, 60 E, 61 C, 62, 63, 64 VCCIO2, 65 GNDIO2, 66, 67, 68, 69, 70, 71, 72, 73, 74, 75, 76, 77, 78, 79, 80, 81, 82 VCCIO3, 83 GNDIO3, 84, 85, 86, 87, 88, 89 GCLK3, 90 VCC, 91 GCLK4, 92 GND, 93, 94, 95, 96, 97, 98, 99 GNDIO3, 100 VCCIO3, 101, 102, 103, 104, 105, 106, 107, 108, 109, 110, 111, 112, 113, 114, 115 GNDIO4, 116 VCCIO4, 117, 118, 119, 120, 121, 122, 123, 124, 125, 126 VCC, 127, 128 GND, 129, 130, 131, 132, 133, 134, 135 GNDIO4, 136 VCCIO4, 137, 138, 139, 140, 141, 142, 143, 144
text: 570 - BANK2; 1270 - BANK4; 570 - BANK1; 1270 - BANK1; 1270 - BANK3; 1270 - BANK2

## ESP8266-01
designator U?, comment ESP-01
ESP-12 Wi-Fi Module
footprint ESP8266
footprint JP4-C2T (8 pins, dual row, straight, gold plating)
pins: 1 UTXD, 2 CH_PD, 3 RST, 4 VCC, 5 URXD, 6 GPIO0, 7 GPIO2, 8 GND
text: ESP8266

## ESP_12
designator U?, comment ESP 12
ESP-12 Wi-Fi Module by AI-Thinker; IC: ESP8266-EX; Vendor: Ai-thinker
footprint ESP12
footprint ESP12_small
pins: 1 ~{RST} "Reset", 2 ADC/TOUT "ADC Input Or TOUT Output", 3 EN "Chip enable", 4 GPIO16/~{WAKE} "GPIO16 or Deep-Sleep Wakeup", 5 GPIO14/HSPICLK "GPIO14 or SPI CLK", 6 GPIO12/HSPIQ "GPIO12 or SPIQ", 7 GPIO13/HSPID/CTS0/RXD2 "GPIO13 or SPID", 8 VDD "Power supply", 9 GND "Power ground", 10 GPIO15/HSPICS/RTS0/TXD2 "GPIO15 or SPICS", 11 GPIO2/TXD1 "GPIO2 or TX", 12 GPIO0/SPICS2 "GPIO0 or SPICS2", 13 GPIO4 "GPIO5", 14 GPIO5 "GPIO4", 15 GPIO3/RXD0 "GPIO3 or UART RXD", 16 GPIO1/SPICS1/TXD0 "GPIO1 or UART TXD"

## FDS4435A
designator MF?
P-Channel Logic Level PowerTrench MOSFET; Value: FDS4435
footprint SO8
footprint DIP8
pins: 1 S, 2 S, 3 S, 4 G, 5 D, 6 D, 7 D, 8 D